# Altium schematic symbol library Luminary+Micro.SchLib: 208 symbols (part 4 of 5)
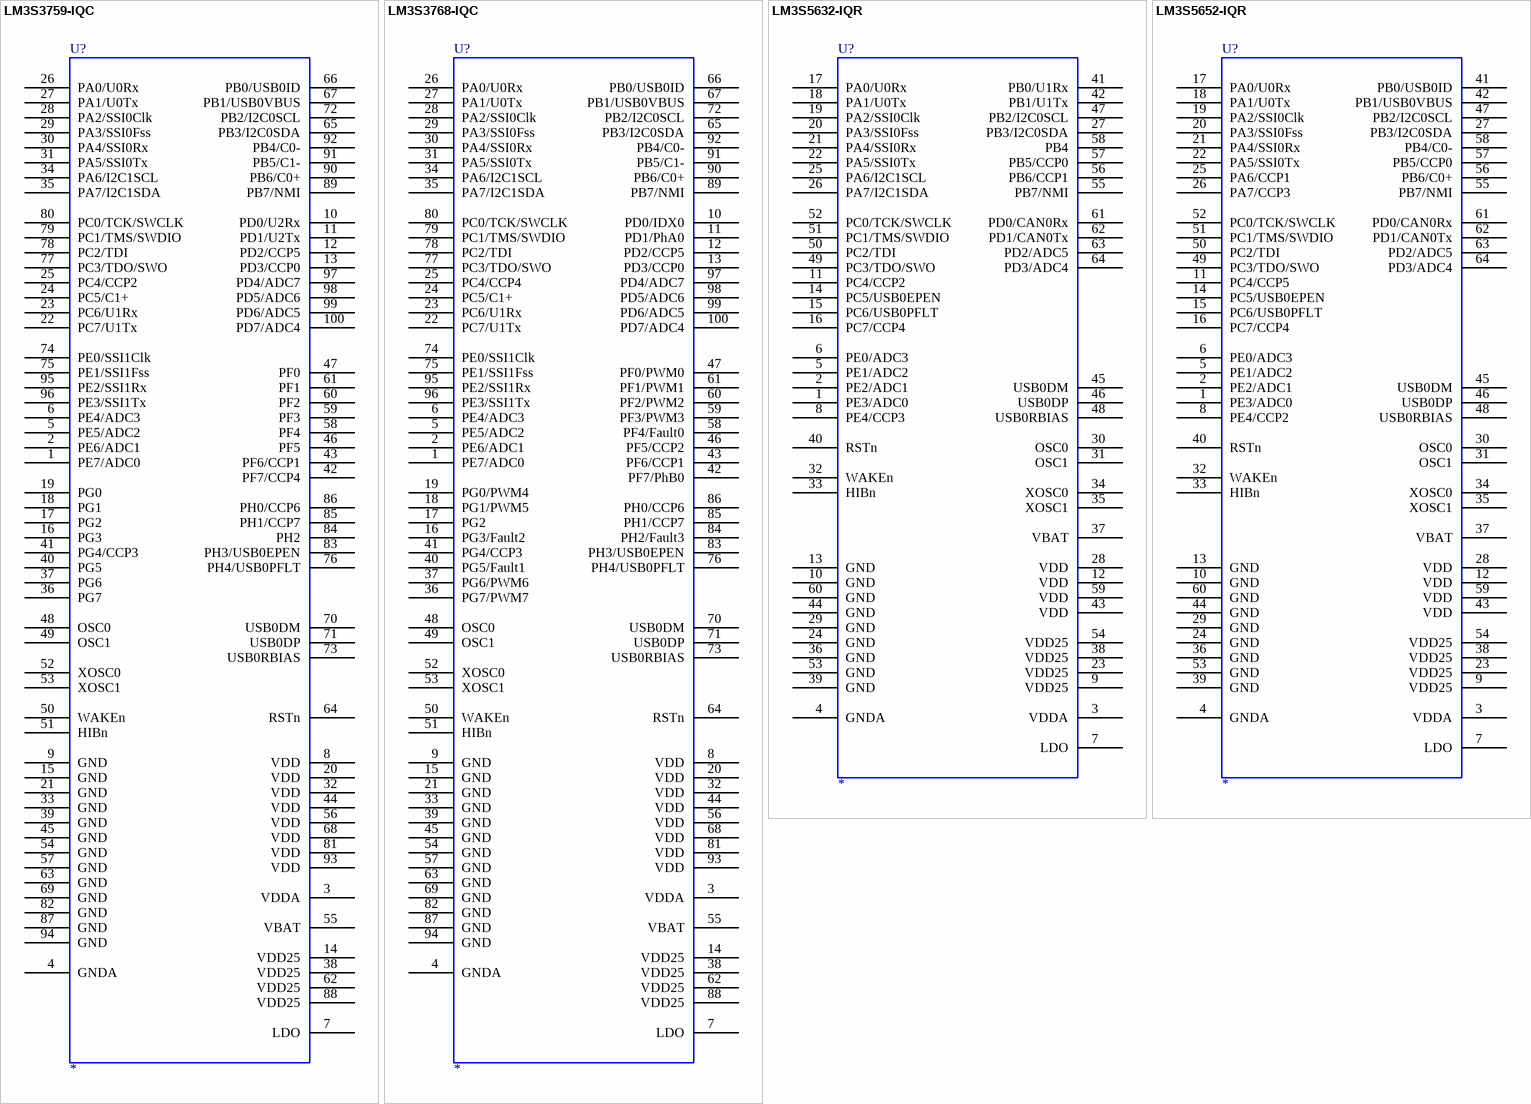
[diagram p51: symbols LM3S3759-IQC to LM3S5652-IQR]

## LM3S3768-IQC
designator U?
Stellaris ARM Cortex-M3 Microcontroller; MFG: Luminary Micro; Ordering: LM3S3768-IQC; LMI Class: Dust Devil
footprint QFP50P1600X1600X160-100N
pins: 1 PE7/ADC0, 2 PE6/ADC1, 3 VDDA, 4 GNDA, 5 PE5/ADC2, 6 PE4/ADC3, 7 LDO, 8 VDD, 9 GND, 10 PD0/IDX0, 11 PD1/PhA0, 12 PD2/CCP5, 13 PD3/CCP0, 14 VDD25, 15 GND, 16 PG3/Fault2, 17 PG2, 18 PG1/PWM5, 19 PG0/PWM4, 20 VDD, 21 GND, 22 PC7/U1Tx, 23 PC6/U1Rx, 24 PC5/C1+, 25 PC4/CCP4, 26 PA0/U0Rx, 27 PA1/U0Tx, 28 PA2/SSI0Clk, 29 PA3/SSI0Fss, 30 PA4/SSI0Rx, 31 PA5/SSI0Tx, 32 VDD, 33 GND, 34 PA6/I2C1SCL, 35 PA7/I2C1SDA, 36 PG7/PWM7, 37 PG6/PWM6, 38 VDD25, 39 GND, 40 PG5/Fault1, 41 PG4/CCP3, 42 PF7/PhB0, 43 PF6/CCP1, 44 VDD, 45 GND, 46 PF5/CCP2, 47 PF0/PWM0, 48 OSC0, 49 OSC1, 50 WAKEn, 51 HIBn, 52 XOSC0, 53 XOSC1, 54 GND, 55 VBAT, 56 VDD, 57 GND, 58 PF4/Fault0, 59 PF3/PWM3, 60 PF2/PWM2, 61 PF1/PWM1, 62 VDD25, 63 GND, 64 RSTn, 65 PB3/I2C0SDA, 66 PB0/USB0ID, 67 PB1/USB0VBUS, 68 VDD, 69 GND, 70 USB0DM, 71 USB0DP, 72 PB2/I2C0SCL, 73 USB0RBIAS, 74 PE0/SSI1Clk, 75 PE1/SSI1Fss, 76 PH4/USB0PFLT, 77 PC3/TDO/SWO, 78 PC2/TDI, 79 PC1/TMS/SWDIO, 80 PC0/TCK/SWCLK, 81 VDD, 82 GND, 83 PH3/USB0EPEN, 84 PH2/Fault3, 85 PH1/CCP7, 86 PH0/CCP6, 87 GND, 88 VDD25, 89 PB7/NMI, 90 PB6/C0+, 91 PB5/C1-, 92 PB4/C0-, 93 VDD, 94 GND, 95 PE2/SSI1Rx, 96 PE3/SSI1Tx, 97 PD4/ADC7, 98 PD5/ADC6, 99 PD6/ADC5, 100 PD7/ADC4

## LM3S5632-IQR
designator U?
Stellaris ARM Cortex-M3 Microcontroller; MFG: Luminary Micro; Ordering: LM3S5632-IQR; LMI Class: Dust Devil
footprint QFP50P1200X1200X160-64N
pins: 1 PE3/ADC0, 2 PE2/ADC1, 3 VDDA, 4 GNDA, 5 PE1/ADC2, 6 PE0/ADC3, 7 LDO, 8 PE4/CCP3, 9 VDD25, 10 GND, 11 PC4/CCP2, 12 VDD, 13 GND, 14 PC5/USB0EPEN, 15 PC6/USB0PFLT, 16 PC7/CCP4, 17 PA0/U0Rx, 18 PA1/U0Tx, 19 PA2/SSI0Clk, 20 PA3/SSI0Fss, 21 PA4/SSI0Rx, 22 PA5/SSI0Tx, 23 VDD25, 24 GND, 25 PA6/I2C1SCL, 26 PA7/I2C1SDA, 27 PB3/I2C0SDA, 28 VDD, 29 GND, 30 OSC0, 31 OSC1, 32 WAKEn, 33 HIBn, 34 XOSC0, 35 XOSC1, 36 GND, 37 VBAT, 38 VDD25, 39 GND, 40 RSTn, 41 PB0/U1Rx, 42 PB1/U1Tx, 43 VDD, 44 GND, 45 USB0DM, 46 USB0DP, 47 PB2/I2C0SCL, 48 USB0RBIAS, 49 PC3/TDO/SWO, 50 PC2/TDI, 51 PC1/TMS/SWDIO, 52 PC0/TCK/SWCLK, 53 GND, 54 VDD25, 55 PB7/NMI, 56 PB6/CCP1, 57 PB5/CCP0, 58 PB4, 59 VDD, 60 GND, 61 PD0/CAN0Rx, 62 PD1/CAN0Tx, 63 PD2/ADC5, 64 PD3/ADC4

## LM3S5652-IQR
designator U?
Stellaris ARM Cortex-M3 Microcontroller; MFG: Luminary Micro; Ordering: LM3S5652-IQR; LMI Class: Dust Devil
footprint QFP50P1200X1200X160-64N
pins: 1 PE3/ADC0, 2 PE2/ADC1, 3 VDDA, 4 GNDA, 5 PE1/ADC2, 6 PE0/ADC3, 7 LDO, 8 PE4/CCP2, 9 VDD25, 10 GND, 11 PC4/CCP5, 12 VDD, 13 GND, 14 PC5/USB0EPEN, 15 PC6/USB0PFLT, 16 PC7/CCP4, 17 PA0/U0Rx, 18 PA1/U0Tx, 19 PA2/SSI0Clk, 20 PA3/SSI0Fss, 21 PA4/SSI0Rx, 22 PA5/SSI0Tx, 23 VDD25, 24 GND, 25 PA6/CCP1, 26 PA7/CCP3, 27 PB3/I2C0SDA, 28 VDD, 29 GND, 30 OSC0, 31 OSC1, 32 WAKEn, 33 HIBn, 34 XOSC0, 35 XOSC1, 36 GND, 37 VBAT, 38 VDD25, 39 GND, 40 RSTn, 41 PB0/USB0ID, 42 PB1/USB0VBUS, 43 VDD, 44 GND, 45 USB0DM, 46 USB0DP, 47 PB2/I2C0SCL, 48 USB0RBIAS, 49 PC3/TDO/SWO, 50 PC2/TDI, 51 PC1/TMS/SWDIO, 52 PC0/TCK/SWCLK, 53 GND, 54 VDD25, 55 PB7/NMI, 56 PB6/C0+, 57 PB5/CCP0, 58 PB4/C0-, 59 VDD, 60 GND, 61 PD0/CAN0Rx, 62 PD1/CAN0Tx, 63 PD2/ADC5, 64 PD3/ADC4

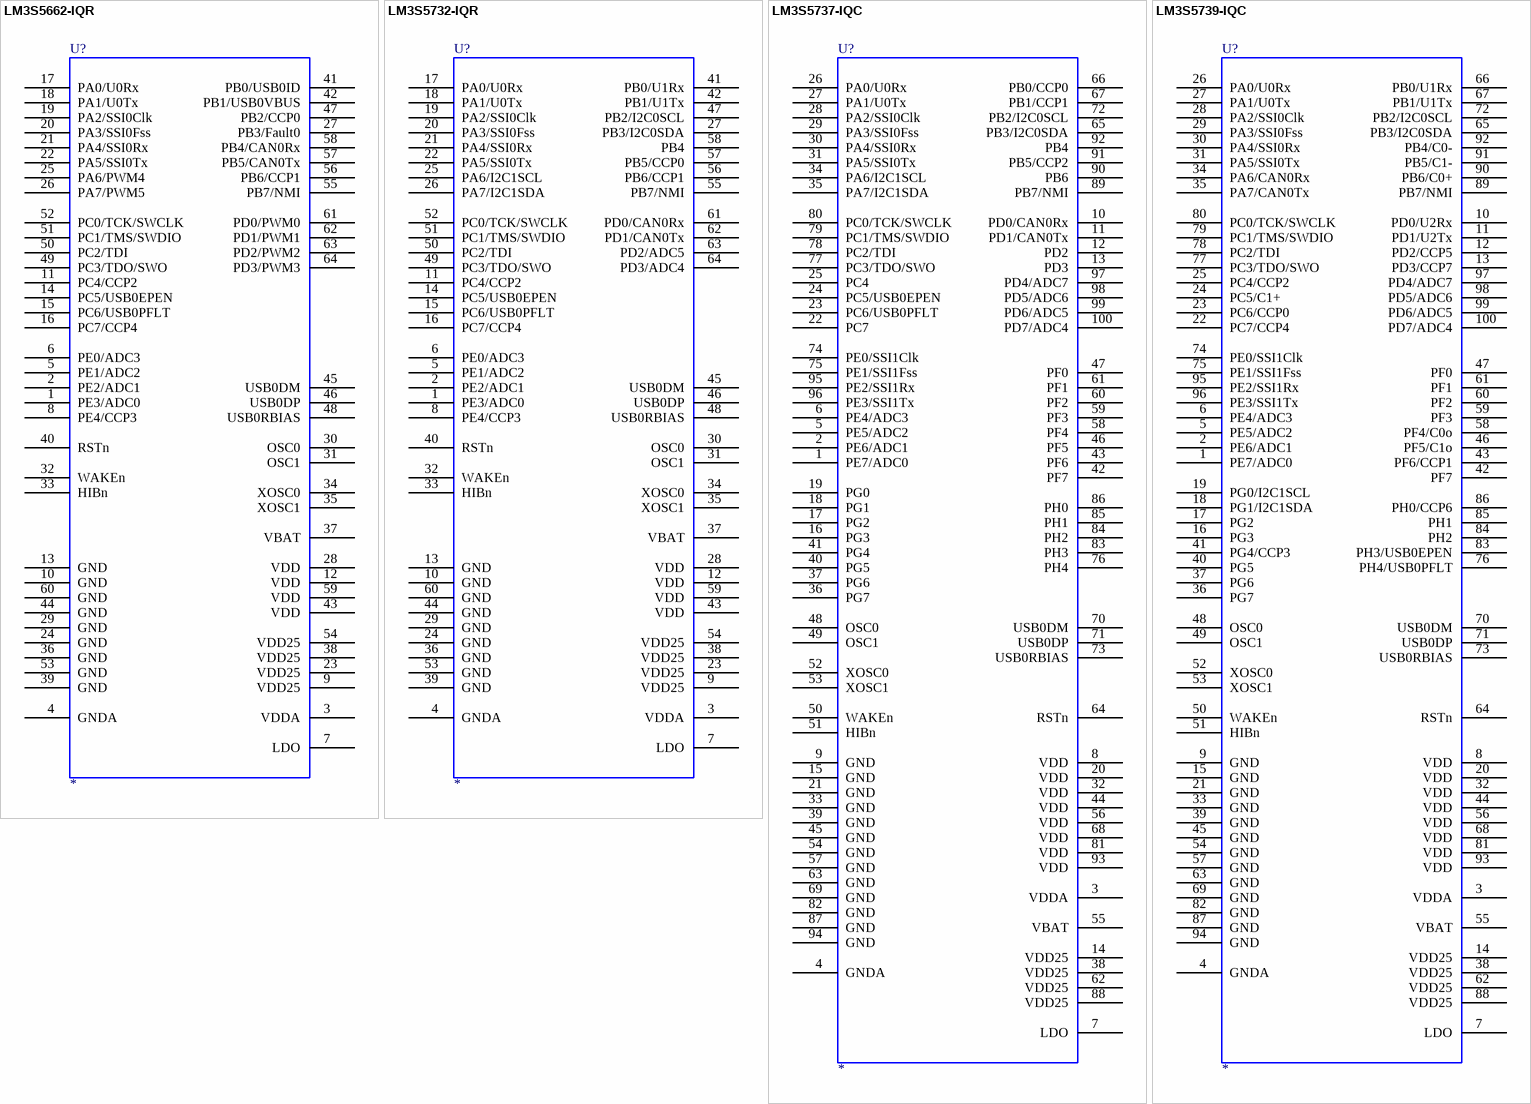
[diagram p30: symbols LM3S5662-IQR to LM3S5739-IQC]

## LM3S5662-IQR
designator U?
Stellaris ARM Cortex-M3 Microcontroller; MFG: Luminary Micro; Ordering: LM3S5662-IQR; LMI Class: Dust Devil
footprint QFP50P1200X1200X160-64N
pins: 1 PE3/ADC0, 2 PE2/ADC1, 3 VDDA, 4 GNDA, 5 PE1/ADC2, 6 PE0/ADC3, 7 LDO, 8 PE4/CCP3, 9 VDD25, 10 GND, 11 PC4/CCP2, 12 VDD, 13 GND, 14 PC5/USB0EPEN, 15 PC6/USB0PFLT, 16 PC7/CCP4, 17 PA0/U0Rx, 18 PA1/U0Tx, 19 PA2/SSI0Clk, 20 PA3/SSI0Fss, 21 PA4/SSI0Rx, 22 PA5/SSI0Tx, 23 VDD25, 24 GND, 25 PA6/PWM4, 26 PA7/PWM5, 27 PB3/Fault0, 28 VDD, 29 GND, 30 OSC0, 31 OSC1, 32 WAKEn, 33 HIBn, 34 XOSC0, 35 XOSC1, 36 GND, 37 VBAT, 38 VDD25, 39 GND, 40 RSTn, 41 PB0/USB0ID, 42 PB1/USB0VBUS, 43 VDD, 44 GND, 45 USB0DM, 46 USB0DP, 47 PB2/CCP0, 48 USB0RBIAS, 49 PC3/TDO/SWO, 50 PC2/TDI, 51 PC1/TMS/SWDIO, 52 PC0/TCK/SWCLK, 53 GND, 54 VDD25, 55 PB7/NMI, 56 PB6/CCP1, 57 PB5/CAN0Tx, 58 PB4/CAN0Rx, 59 VDD, 60 GND, 61 PD0/PWM0, 62 PD1/PWM1, 63 PD2/PWM2, 64 PD3/PWM3

## LM3S5732-IQR
designator U?
Stellaris ARM Cortex-M3 Microcontroller; MFG: Luminary Micro; Ordering: LM3S5732-IQR; LMI Class: Dust Devil
footprint QFP50P1200X1200X160-64N
pins: 1 PE3/ADC0, 2 PE2/ADC1, 3 VDDA, 4 GNDA, 5 PE1/ADC2, 6 PE0/ADC3, 7 LDO, 8 PE4/CCP3, 9 VDD25, 10 GND, 11 PC4/CCP2, 12 VDD, 13 GND, 14 PC5/USB0EPEN, 15 PC6/USB0PFLT, 16 PC7/CCP4, 17 PA0/U0Rx, 18 PA1/U0Tx, 19 PA2/SSI0Clk, 20 PA3/SSI0Fss, 21 PA4/SSI0Rx, 22 PA5/SSI0Tx, 23 VDD25, 24 GND, 25 PA6/I2C1SCL, 26 PA7/I2C1SDA, 27 PB3/I2C0SDA, 28 VDD, 29 GND, 30 OSC0, 31 OSC1, 32 WAKEn, 33 HIBn, 34 XOSC0, 35 XOSC1, 36 GND, 37 VBAT, 38 VDD25, 39 GND, 40 RSTn, 41 PB0/U1Rx, 42 PB1/U1Tx, 43 VDD, 44 GND, 45 USB0DM, 46 USB0DP, 47 PB2/I2C0SCL, 48 USB0RBIAS, 49 PC3/TDO/SWO, 50 PC2/TDI, 51 PC1/TMS/SWDIO, 52 PC0/TCK/SWCLK, 53 GND, 54 VDD25, 55 PB7/NMI, 56 PB6/CCP1, 57 PB5/CCP0, 58 PB4, 59 VDD, 60 GND, 61 PD0/CAN0Rx, 62 PD1/CAN0Tx, 63 PD2/ADC5, 64 PD3/ADC4

## LM3S5737-IQC
designator U?
Stellaris ARM Cortex-M3 Microcontroller; MFG: Luminary Micro; Ordering: LM3S5737-IQC; LMI Class: Dust Devil
footprint QFP50P1600X1600X160-100N
pins: 1 PE7/ADC0, 2 PE6/ADC1, 3 VDDA, 4 GNDA, 5 PE5/ADC2, 6 PE4/ADC3, 7 LDO, 8 VDD, 9 GND, 10 PD0/CAN0Rx, 11 PD1/CAN0Tx, 12 PD2, 13 PD3, 14 VDD25, 15 GND, 16 PG3, 17 PG2, 18 PG1, 19 PG0, 20 VDD, 21 GND, 22 PC7, 23 PC6/USB0PFLT, 24 PC5/USB0EPEN, 25 PC4, 26 PA0/U0Rx, 27 PA1/U0Tx, 28 PA2/SSI0Clk, 29 PA3/SSI0Fss, 30 PA4/SSI0Rx, 31 PA5/SSI0Tx, 32 VDD, 33 GND, 34 PA6/I2C1SCL, 35 PA7/I2C1SDA, 36 PG7, 37 PG6, 38 VDD25, 39 GND, 40 PG5, 41 PG4, 42 PF7, 43 PF6, 44 VDD, 45 GND, 46 PF5, 47 PF0, 48 OSC0, 49 OSC1, 50 WAKEn, 51 HIBn, 52 XOSC0, 53 XOSC1, 54 GND, 55 VBAT, 56 VDD, 57 GND, 58 PF4, 59 PF3, 60 PF2, 61 PF1, 62 VDD25, 63 GND, 64 RSTn, 65 PB3/I2C0SDA, 66 PB0/CCP0, 67 PB1/CCP1, 68 VDD, 69 GND, 70 USB0DM, 71 USB0DP, 72 PB2/I2C0SCL, 73 USB0RBIAS, 74 PE0/SSI1Clk, 75 PE1/SSI1Fss, 76 PH4, 77 PC3/TDO/SWO, 78 PC2/TDI, 79 PC1/TMS/SWDIO, 80 PC0/TCK/SWCLK, 81 VDD, 82 GND, 83 PH3, 84 PH2, 85 PH1, 86 PH0, 87 GND, 88 VDD25, 89 PB7/NMI, 90 PB6, 91 PB5/CCP2, 92 PB4, 93 VDD, 94 GND, 95 PE2/SSI1Rx, 96 PE3/SSI1Tx, 97 PD4/ADC7, 98 PD5/ADC6, 99 PD6/ADC5, 100 PD7/ADC4

## LM3S5739-IQC
designator U?
Stellaris ARM Cortex-M3 Microcontroller; MFG: Luminary Micro; Ordering: LM3S5739-IQC; LMI Class: Dust Devil
footprint QFP50P1600X1600X160-100N
pins: 1 PE7/ADC0, 2 PE6/ADC1, 3 VDDA, 4 GNDA, 5 PE5/ADC2, 6 PE4/ADC3, 7 LDO, 8 VDD, 9 GND, 10 PD0/U2Rx, 11 PD1/U2Tx, 12 PD2/CCP5, 13 PD3/CCP7, 14 VDD25, 15 GND, 16 PG3, 17 PG2, 18 PG1/I2C1SDA, 19 PG0/I2C1SCL, 20 VDD, 21 GND, 22 PC7/CCP4, 23 PC6/CCP0, 24 PC5/C1+, 25 PC4/CCP2, 26 PA0/U0Rx, 27 PA1/U0Tx, 28 PA2/SSI0Clk, 29 PA3/SSI0Fss, 30 PA4/SSI0Rx, 31 PA5/SSI0Tx, 32 VDD, 33 GND, 34 PA6/CAN0Rx, 35 PA7/CAN0Tx, 36 PG7, 37 PG6, 38 VDD25, 39 GND, 40 PG5, 41 PG4/CCP3, 42 PF7, 43 PF6/CCP1, 44 VDD, 45 GND, 46 PF5/C1o, 47 PF0, 48 OSC0, 49 OSC1, 50 WAKEn, 51 HIBn, 52 XOSC0, 53 XOSC1, 54 GND, 55 VBAT, 56 VDD, 57 GND, 58 PF4/C0o, 59 PF3, 60 PF2, 61 PF1, 62 VDD25, 63 GND, 64 RSTn, 65 PB3/I2C0SDA, 66 PB0/U1Rx, 67 PB1/U1Tx, 68 VDD, 69 GND, 70 USB0DM, 71 USB0DP, 72 PB2/I2C0SCL, 73 USB0RBIAS, 74 PE0/SSI1Clk, 75 PE1/SSI1Fss, 76 PH4/USB0PFLT, 77 PC3/TDO/SWO, 78 PC2/TDI, 79 PC1/TMS/SWDIO, 80 PC0/TCK/SWCLK, 81 VDD, 82 GND, 83 PH3/USB0EPEN, 84 PH2, 85 PH1, 86 PH0/CCP6, 87 GND, 88 VDD25, 89 PB7/NMI, 90 PB6/C0+, 91 PB5/C1-, 92 PB4/C0-, 93 VDD, 94 GND, 95 PE2/SSI1Rx, 96 PE3/SSI1Tx, 97 PD4/ADC7, 98 PD5/ADC6, 99 PD6/ADC5, 100 PD7/ADC4

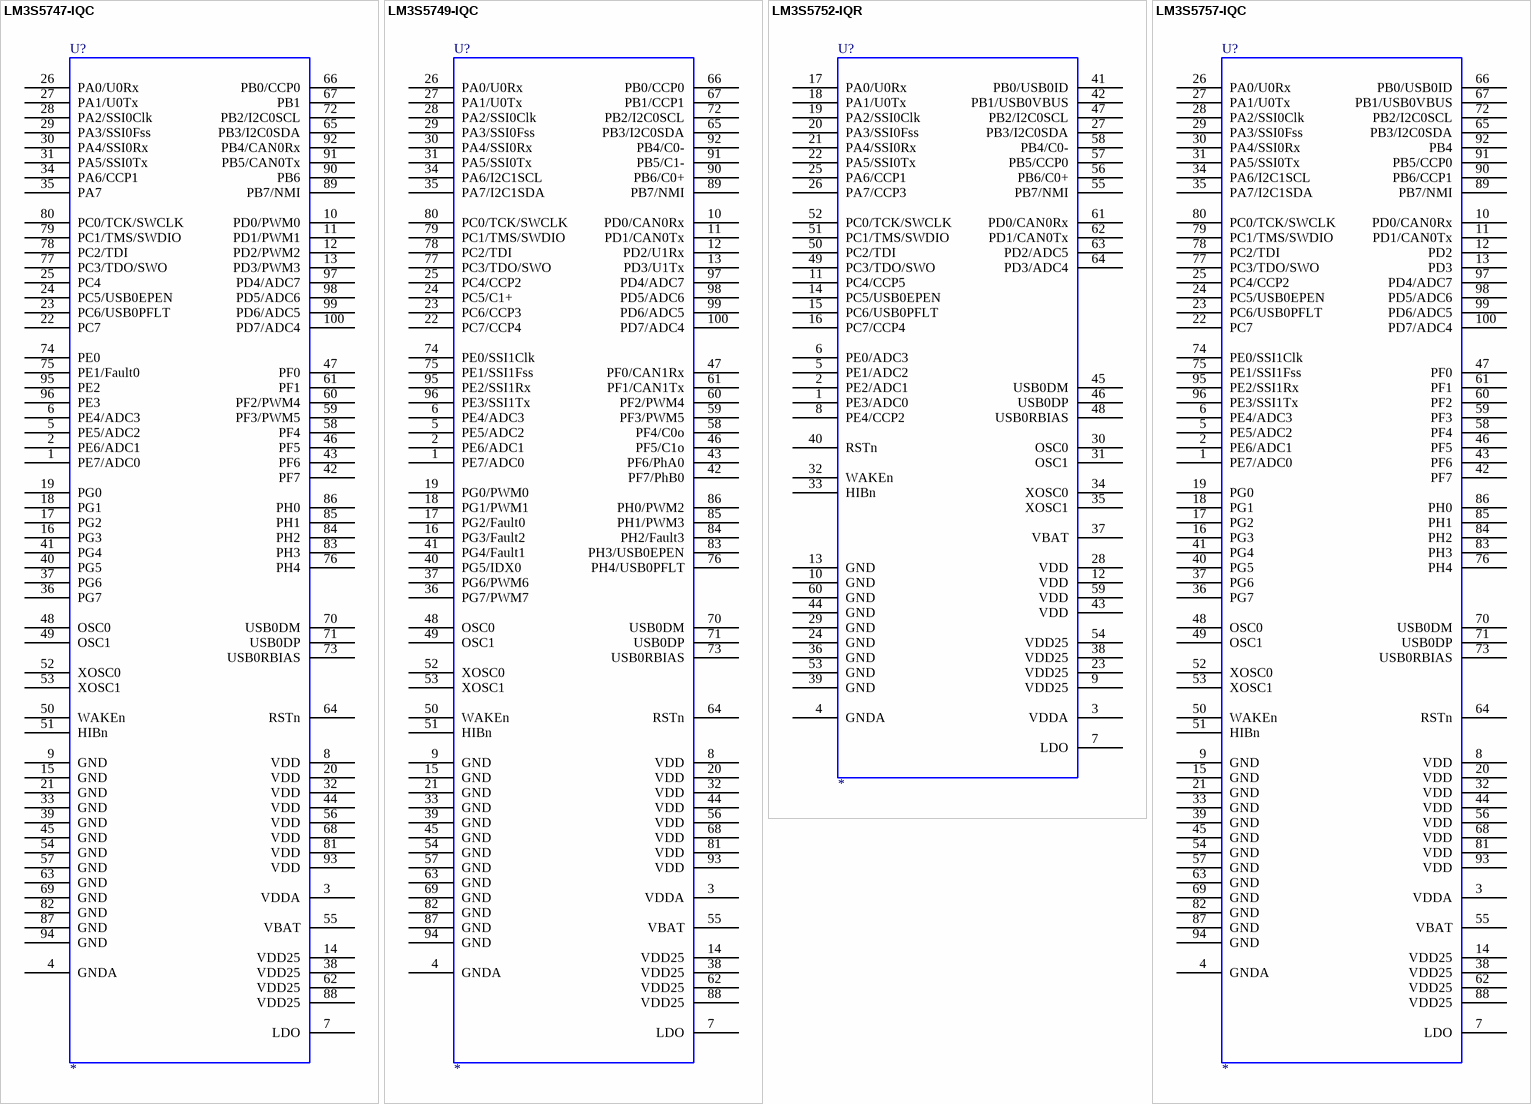
[diagram p31: symbols LM3S5747-IQC to LM3S5757-IQC]

## LM3S5747-IQC
designator U?
Stellaris ARM Cortex-M3 Microcontroller; MFG: Luminary Micro; Ordering: LM3S5747-IQC; LMI Class: Dust Devil
footprint QFP50P1600X1600X160-100N
pins: 1 PE7/ADC0, 2 PE6/ADC1, 3 VDDA, 4 GNDA, 5 PE5/ADC2, 6 PE4/ADC3, 7 LDO, 8 VDD, 9 GND, 10 PD0/PWM0, 11 PD1/PWM1, 12 PD2/PWM2, 13 PD3/PWM3, 14 VDD25, 15 GND, 16 PG3, 17 PG2, 18 PG1, 19 PG0, 20 VDD, 21 GND, 22 PC7, 23 PC6/USB0PFLT, 24 PC5/USB0EPEN, 25 PC4, 26 PA0/U0Rx, 27 PA1/U0Tx, 28 PA2/SSI0Clk, 29 PA3/SSI0Fss, 30 PA4/SSI0Rx, 31 PA5/SSI0Tx, 32 VDD, 33 GND, 34 PA6/CCP1, 35 PA7, 36 PG7, 37 PG6, 38 VDD25, 39 GND, 40 PG5, 41 PG4, 42 PF7, 43 PF6, 44 VDD, 45 GND, 46 PF5, 47 PF0, 48 OSC0, 49 OSC1, 50 WAKEn, 51 HIBn, 52 XOSC0, 53 XOSC1, 54 GND, 55 VBAT, 56 VDD, 57 GND, 58 PF4, 59 PF3/PWM5, 60 PF2/PWM4, 61 PF1, 62 VDD25, 63 GND, 64 RSTn, 65 PB3/I2C0SDA, 66 PB0/CCP0, 67 PB1, 68 VDD, 69 GND, 70 USB0DM, 71 USB0DP, 72 PB2/I2C0SCL, 73 USB0RBIAS, 74 PE0, 75 PE1/Fault0, 76 PH4, 77 PC3/TDO/SWO, 78 PC2/TDI, 79 PC1/TMS/SWDIO, 80 PC0/TCK/SWCLK, 81 VDD, 82 GND, 83 PH3, 84 PH2, 85 PH1, 86 PH0, 87 GND, 88 VDD25, 89 PB7/NMI, 90 PB6, 91 PB5/CAN0Tx, 92 PB4/CAN0Rx, 93 VDD, 94 GND, 95 PE2, 96 PE3, 97 PD4/ADC7, 98 PD5/ADC6, 99 PD6/ADC5, 100 PD7/ADC4

## LM3S5749-IQC
designator U?
Stellaris ARM Cortex-M3 Microcontroller; MFG: Luminary Micro; Ordering: LM3S5749-IQC; LMI Class: Dust Devil
footprint QFP50P1600X1600X160-100N
pins: 1 PE7/ADC0, 2 PE6/ADC1, 3 VDDA, 4 GNDA, 5 PE5/ADC2, 6 PE4/ADC3, 7 LDO, 8 VDD, 9 GND, 10 PD0/CAN0Rx, 11 PD1/CAN0Tx, 12 PD2/U1Rx, 13 PD3/U1Tx, 14 VDD25, 15 GND, 16 PG3/Fault2, 17 PG2/Fault0, 18 PG1/PWM1, 19 PG0/PWM0, 20 VDD, 21 GND, 22 PC7/CCP4, 23 PC6/CCP3, 24 PC5/C1+, 25 PC4/CCP2, 26 PA0/U0Rx, 27 PA1/U0Tx, 28 PA2/SSI0Clk, 29 PA3/SSI0Fss, 30 PA4/SSI0Rx, 31 PA5/SSI0Tx, 32 VDD, 33 GND, 34 PA6/I2C1SCL, 35 PA7/I2C1SDA, 36 PG7/PWM7, 37 PG6/PWM6, 38 VDD25, 39 GND, 40 PG5/IDX0, 41 PG4/Fault1, 42 PF7/PhB0, 43 PF6/PhA0, 44 VDD, 45 GND, 46 PF5/C1o, 47 PF0/CAN1Rx, 48 OSC0, 49 OSC1, 50 WAKEn, 51 HIBn, 52 XOSC0, 53 XOSC1, 54 GND, 55 VBAT, 56 VDD, 57 GND, 58 PF4/C0o, 59 PF3/PWM5, 60 PF2/PWM4, 61 PF1/CAN1Tx, 62 VDD25, 63 GND, 64 RSTn, 65 PB3/I2C0SDA, 66 PB0/CCP0, 67 PB1/CCP1, 68 VDD, 69 GND, 70 USB0DM, 71 USB0DP, 72 PB2/I2C0SCL, 73 USB0RBIAS, 74 PE0/SSI1Clk, 75 PE1/SSI1Fss, 76 PH4/USB0PFLT, 77 PC3/TDO/SWO, 78 PC2/TDI, 79 PC1/TMS/SWDIO, 80 PC0/TCK/SWCLK, 81 VDD, 82 GND, 83 PH3/USB0EPEN, 84 PH2/Fault3, 85 PH1/PWM3, 86 PH0/PWM2, 87 GND, 88 VDD25, 89 PB7/NMI, 90 PB6/C0+, 91 PB5/C1-, 92 PB4/C0-, 93 VDD, 94 GND, 95 PE2/SSI1Rx, 96 PE3/SSI1Tx, 97 PD4/ADC7, 98 PD5/ADC6, 99 PD6/ADC5, 100 PD7/ADC4

## LM3S5752-IQR
designator U?
Stellaris ARM Cortex-M3 Microcontroller; MFG: Luminary Micro; Ordering: LM3S5752-IQR; LMI Class: Dust Devil
footprint QFP50P1200X1200X160-64N
pins: 1 PE3/ADC0, 2 PE2/ADC1, 3 VDDA, 4 GNDA, 5 PE1/ADC2, 6 PE0/ADC3, 7 LDO, 8 PE4/CCP2, 9 VDD25, 10 GND, 11 PC4/CCP5, 12 VDD, 13 GND, 14 PC5/USB0EPEN, 15 PC6/USB0PFLT, 16 PC7/CCP4, 17 PA0/U0Rx, 18 PA1/U0Tx, 19 PA2/SSI0Clk, 20 PA3/SSI0Fss, 21 PA4/SSI0Rx, 22 PA5/SSI0Tx, 23 VDD25, 24 GND, 25 PA6/CCP1, 26 PA7/CCP3, 27 PB3/I2C0SDA, 28 VDD, 29 GND, 30 OSC0, 31 OSC1, 32 WAKEn, 33 HIBn, 34 XOSC0, 35 XOSC1, 36 GND, 37 VBAT, 38 VDD25, 39 GND, 40 RSTn, 41 PB0/USB0ID, 42 PB1/USB0VBUS, 43 VDD, 44 GND, 45 USB0DM, 46 USB0DP, 47 PB2/I2C0SCL, 48 USB0RBIAS, 49 PC3/TDO/SWO, 50 PC2/TDI, 51 PC1/TMS/SWDIO, 52 PC0/TCK/SWCLK, 53 GND, 54 VDD25, 55 PB7/NMI, 56 PB6/C0+, 57 PB5/CCP0, 58 PB4/C0-, 59 VDD, 60 GND, 61 PD0/CAN0Rx, 62 PD1/CAN0Tx, 63 PD2/ADC5, 64 PD3/ADC4

## LM3S5757-IQC
designator U?
Stellaris ARM Cortex-M3 Microcontroller; MFG: Luminary Micro; Ordering: LM3S5757-IQC; LMI Class: Dust Devil
footprint QFP50P1600X1600X160-100N
pins: 1 PE7/ADC0, 2 PE6/ADC1, 3 VDDA, 4 GNDA, 5 PE5/ADC2, 6 PE4/ADC3, 7 LDO, 8 VDD, 9 GND, 10 PD0/CAN0Rx, 11 PD1/CAN0Tx, 12 PD2, 13 PD3, 14 VDD25, 15 GND, 16 PG3, 17 PG2, 18 PG1, 19 PG0, 20 VDD, 21 GND, 22 PC7, 23 PC6/USB0PFLT, 24 PC5/USB0EPEN, 25 PC4/CCP2, 26 PA0/U0Rx, 27 PA1/U0Tx, 28 PA2/SSI0Clk, 29 PA3/SSI0Fss, 30 PA4/SSI0Rx, 31 PA5/SSI0Tx, 32 VDD, 33 GND, 34 PA6/I2C1SCL, 35 PA7/I2C1SDA, 36 PG7, 37 PG6, 38 VDD25, 39 GND, 40 PG5, 41 PG4, 42 PF7, 43 PF6, 44 VDD, 45 GND, 46 PF5, 47 PF0, 48 OSC0, 49 OSC1, 50 WAKEn, 51 HIBn, 52 XOSC0, 53 XOSC1, 54 GND, 55 VBAT, 56 VDD, 57 GND, 58 PF4, 59 PF3, 60 PF2, 61 PF1, 62 VDD25, 63 GND, 64 RSTn, 65 PB3/I2C0SDA, 66 PB0/USB0ID, 67 PB1/USB0VBUS, 68 VDD, 69 GND, 70 USB0DM, 71 USB0DP, 72 PB2/I2C0SCL, 73 USB0RBIAS, 74 PE0/SSI1Clk, 75 PE1/SSI1Fss, 76 PH4, 77 PC3/TDO/SWO, 78 PC2/TDI, 79 PC1/TMS/SWDIO, 80 PC0/TCK/SWCLK, 81 VDD, 82 GND, 83 PH3, 84 PH2, 85 PH1, 86 PH0, 87 GND, 88 VDD25, 89 PB7/NMI, 90 PB6/CCP1, 91 PB5/CCP0, 92 PB4, 93 VDD, 94 GND, 95 PE2/SSI1Rx, 96 PE3/SSI1Tx, 97 PD4/ADC7, 98 PD5/ADC6, 99 PD6/ADC5, 100 PD7/ADC4

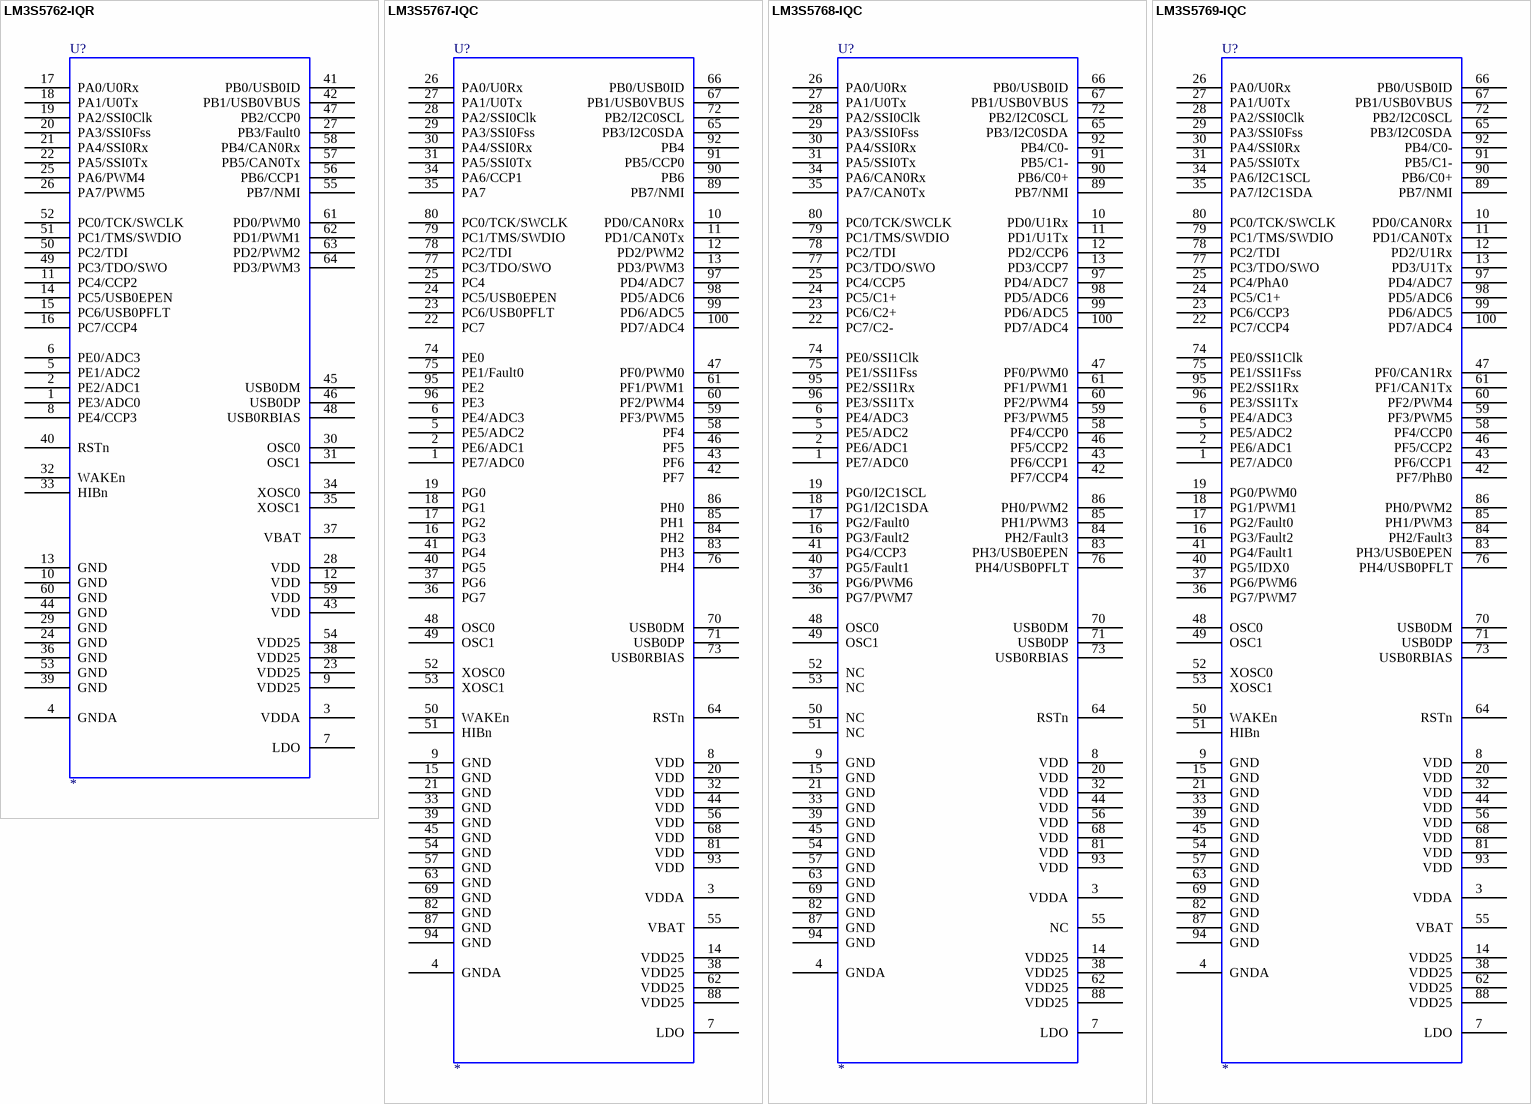
[diagram p32: symbols LM3S5762-IQR to LM3S5769-IQC]

## LM3S5762-IQR
designator U?
Stellaris ARM Cortex-M3 Microcontroller; MFG: Luminary Micro; Ordering: LM3S5762-IQR; LMI Class: Dust Devil
footprint QFP50P1200X1200X160-64N
pins: 1 PE3/ADC0, 2 PE2/ADC1, 3 VDDA, 4 GNDA, 5 PE1/ADC2, 6 PE0/ADC3, 7 LDO, 8 PE4/CCP3, 9 VDD25, 10 GND, 11 PC4/CCP2, 12 VDD, 13 GND, 14 PC5/USB0EPEN, 15 PC6/USB0PFLT, 16 PC7/CCP4, 17 PA0/U0Rx, 18 PA1/U0Tx, 19 PA2/SSI0Clk, 20 PA3/SSI0Fss, 21 PA4/SSI0Rx, 22 PA5/SSI0Tx, 23 VDD25, 24 GND, 25 PA6/PWM4, 26 PA7/PWM5, 27 PB3/Fault0, 28 VDD, 29 GND, 30 OSC0, 31 OSC1, 32 WAKEn, 33 HIBn, 34 XOSC0, 35 XOSC1, 36 GND, 37 VBAT, 38 VDD25, 39 GND, 40 RSTn, 41 PB0/USB0ID, 42 PB1/USB0VBUS, 43 VDD, 44 GND, 45 USB0DM, 46 USB0DP, 47 PB2/CCP0, 48 USB0RBIAS, 49 PC3/TDO/SWO, 50 PC2/TDI, 51 PC1/TMS/SWDIO, 52 PC0/TCK/SWCLK, 53 GND, 54 VDD25, 55 PB7/NMI, 56 PB6/CCP1, 57 PB5/CAN0Tx, 58 PB4/CAN0Rx, 59 VDD, 60 GND, 61 PD0/PWM0, 62 PD1/PWM1, 63 PD2/PWM2, 64 PD3/PWM3

## LM3S5767-IQC
designator U?
Stellaris ARM Cortex-M3 Microcontroller; MFG: Luminary Micro; Ordering: LM3S5767-IQC; LMI Class: Dust Devil
footprint QFP50P1600X1600X160-100N
pins: 1 PE7/ADC0, 2 PE6/ADC1, 3 VDDA, 4 GNDA, 5 PE5/ADC2, 6 PE4/ADC3, 7 LDO, 8 VDD, 9 GND, 10 PD0/CAN0Rx, 11 PD1/CAN0Tx, 12 PD2/PWM2, 13 PD3/PWM3, 14 VDD25, 15 GND, 16 PG3, 17 PG2, 18 PG1, 19 PG0, 20 VDD, 21 GND, 22 PC7, 23 PC6/USB0PFLT, 24 PC5/USB0EPEN, 25 PC4, 26 PA0/U0Rx, 27 PA1/U0Tx, 28 PA2/SSI0Clk, 29 PA3/SSI0Fss, 30 PA4/SSI0Rx, 31 PA5/SSI0Tx, 32 VDD, 33 GND, 34 PA6/CCP1, 35 PA7, 36 PG7, 37 PG6, 38 VDD25, 39 GND, 40 PG5, 41 PG4, 42 PF7, 43 PF6, 44 VDD, 45 GND, 46 PF5, 47 PF0/PWM0, 48 OSC0, 49 OSC1, 50 WAKEn, 51 HIBn, 52 XOSC0, 53 XOSC1, 54 GND, 55 VBAT, 56 VDD, 57 GND, 58 PF4, 59 PF3/PWM5, 60 PF2/PWM4, 61 PF1/PWM1, 62 VDD25, 63 GND, 64 RSTn, 65 PB3/I2C0SDA, 66 PB0/USB0ID, 67 PB1/USB0VBUS, 68 VDD, 69 GND, 70 USB0DM, 71 USB0DP, 72 PB2/I2C0SCL, 73 USB0RBIAS, 74 PE0, 75 PE1/Fault0, 76 PH4, 77 PC3/TDO/SWO, 78 PC2/TDI, 79 PC1/TMS/SWDIO, 80 PC0/TCK/SWCLK, 81 VDD, 82 GND, 83 PH3, 84 PH2, 85 PH1, 86 PH0, 87 GND, 88 VDD25, 89 PB7/NMI, 90 PB6, 91 PB5/CCP0, 92 PB4, 93 VDD, 94 GND, 95 PE2, 96 PE3, 97 PD4/ADC7, 98 PD5/ADC6, 99 PD6/ADC5, 100 PD7/ADC4

## LM3S5768-IQC
designator U?
Stellaris ARM Cortex-M3 Microcontroller; MFG: Luminary Micro; Ordering: LM3S5768-IQC; LMI Class: Dust Devil
footprint QFP50P1600X1600X160-100N
pins: 1 PE7/ADC0, 2 PE6/ADC1, 3 VDDA, 4 GNDA, 5 PE5/ADC2, 6 PE4/ADC3, 7 LDO, 8 VDD, 9 GND, 10 PD0/U1Rx, 11 PD1/U1Tx, 12 PD2/CCP6, 13 PD3/CCP7, 14 VDD25, 15 GND, 16 PG3/Fault2, 17 PG2/Fault0, 18 PG1/I2C1SDA, 19 PG0/I2C1SCL, 20 VDD, 21 GND, 22 PC7/C2-, 23 PC6/C2+, 24 PC5/C1+, 25 PC4/CCP5, 26 PA0/U0Rx, 27 PA1/U0Tx, 28 PA2/SSI0Clk, 29 PA3/SSI0Fss, 30 PA4/SSI0Rx, 31 PA5/SSI0Tx, 32 VDD, 33 GND, 34 PA6/CAN0Rx, 35 PA7/CAN0Tx, 36 PG7/PWM7, 37 PG6/PWM6, 38 VDD25, 39 GND, 40 PG5/Fault1, 41 PG4/CCP3, 42 PF7/CCP4, 43 PF6/CCP1, 44 VDD, 45 GND, 46 PF5/CCP2, 47 PF0/PWM0, 48 OSC0, 49 OSC1, 50 NC, 51 NC, 52 NC, 53 NC, 54 GND, 55 NC, 56 VDD, 57 GND, 58 PF4/CCP0, 59 PF3/PWM5, 60 PF2/PWM4, 61 PF1/PWM1, 62 VDD25, 63 GND, 64 RSTn, 65 PB3/I2C0SDA, 66 PB0/USB0ID, 67 PB1/USB0VBUS, 68 VDD, 69 GND, 70 USB0DM, 71 USB0DP, 72 PB2/I2C0SCL, 73 USB0RBIAS, 74 PE0/SSI1Clk, 75 PE1/SSI1Fss, 76 PH4/USB0PFLT, 77 PC3/TDO/SWO, 78 PC2/TDI, 79 PC1/TMS/SWDIO, 80 PC0/TCK/SWCLK, 81 VDD, 82 GND, 83 PH3/USB0EPEN, 84 PH2/Fault3, 85 PH1/PWM3, 86 PH0/PWM2, 87 GND, 88 VDD25, 89 PB7/NMI, 90 PB6/C0+, 91 PB5/C1-, 92 PB4/C0-, 93 VDD, 94 GND, 95 PE2/SSI1Rx, 96 PE3/SSI1Tx, 97 PD4/ADC7, 98 PD5/ADC6, 99 PD6/ADC5, 100 PD7/ADC4

## LM3S5769-IQC
designator U?
Stellaris ARM Cortex-M3 Microcontroller; MFG: Luminary Micro; Ordering: LM3S5769-IQC; LMI Class: Dust Devil
footprint QFP50P1600X1600X160-100N
pins: 1 PE7/ADC0, 2 PE6/ADC1, 3 VDDA, 4 GNDA, 5 PE5/ADC2, 6 PE4/ADC3, 7 LDO, 8 VDD, 9 GND, 10 PD0/CAN0Rx, 11 PD1/CAN0Tx, 12 PD2/U1Rx, 13 PD3/U1Tx, 14 VDD25, 15 GND, 16 PG3/Fault2, 17 PG2/Fault0, 18 PG1/PWM1, 19 PG0/PWM0, 20 VDD, 21 GND, 22 PC7/CCP4, 23 PC6/CCP3, 24 PC5/C1+, 25 PC4/PhA0, 26 PA0/U0Rx, 27 PA1/U0Tx, 28 PA2/SSI0Clk, 29 PA3/SSI0Fss, 30 PA4/SSI0Rx, 31 PA5/SSI0Tx, 32 VDD, 33 GND, 34 PA6/I2C1SCL, 35 PA7/I2C1SDA, 36 PG7/PWM7, 37 PG6/PWM6, 38 VDD25, 39 GND, 40 PG5/IDX0, 41 PG4/Fault1, 42 PF7/PhB0, 43 PF6/CCP1, 44 VDD, 45 GND, 46 PF5/CCP2, 47 PF0/CAN1Rx, 48 OSC0, 49 OSC1, 50 WAKEn, 51 HIBn, 52 XOSC0, 53 XOSC1, 54 GND, 55 VBAT, 56 VDD, 57 GND, 58 PF4/CCP0, 59 PF3/PWM5, 60 PF2/PWM4, 61 PF1/CAN1Tx, 62 VDD25, 63 GND, 64 RSTn, 65 PB3/I2C0SDA, 66 PB0/USB0ID, 67 PB1/USB0VBUS, 68 VDD, 69 GND, 70 USB0DM, 71 USB0DP, 72 PB2/I2C0SCL, 73 USB0RBIAS, 74 PE0/SSI1Clk, 75 PE1/SSI1Fss, 76 PH4/USB0PFLT, 77 PC3/TDO/SWO, 78 PC2/TDI, 79 PC1/TMS/SWDIO, 80 PC0/TCK/SWCLK, 81 VDD, 82 GND, 83 PH3/USB0EPEN, 84 PH2/Fault3, 85 PH1/PWM3, 86 PH0/PWM2, 87 GND, 88 VDD25, 89 PB7/NMI, 90 PB6/C0+, 91 PB5/C1-, 92 PB4/C0-, 93 VDD, 94 GND, 95 PE2/SSI1Rx, 96 PE3/SSI1Tx, 97 PD4/ADC7, 98 PD5/ADC6, 99 PD6/ADC5, 100 PD7/ADC4

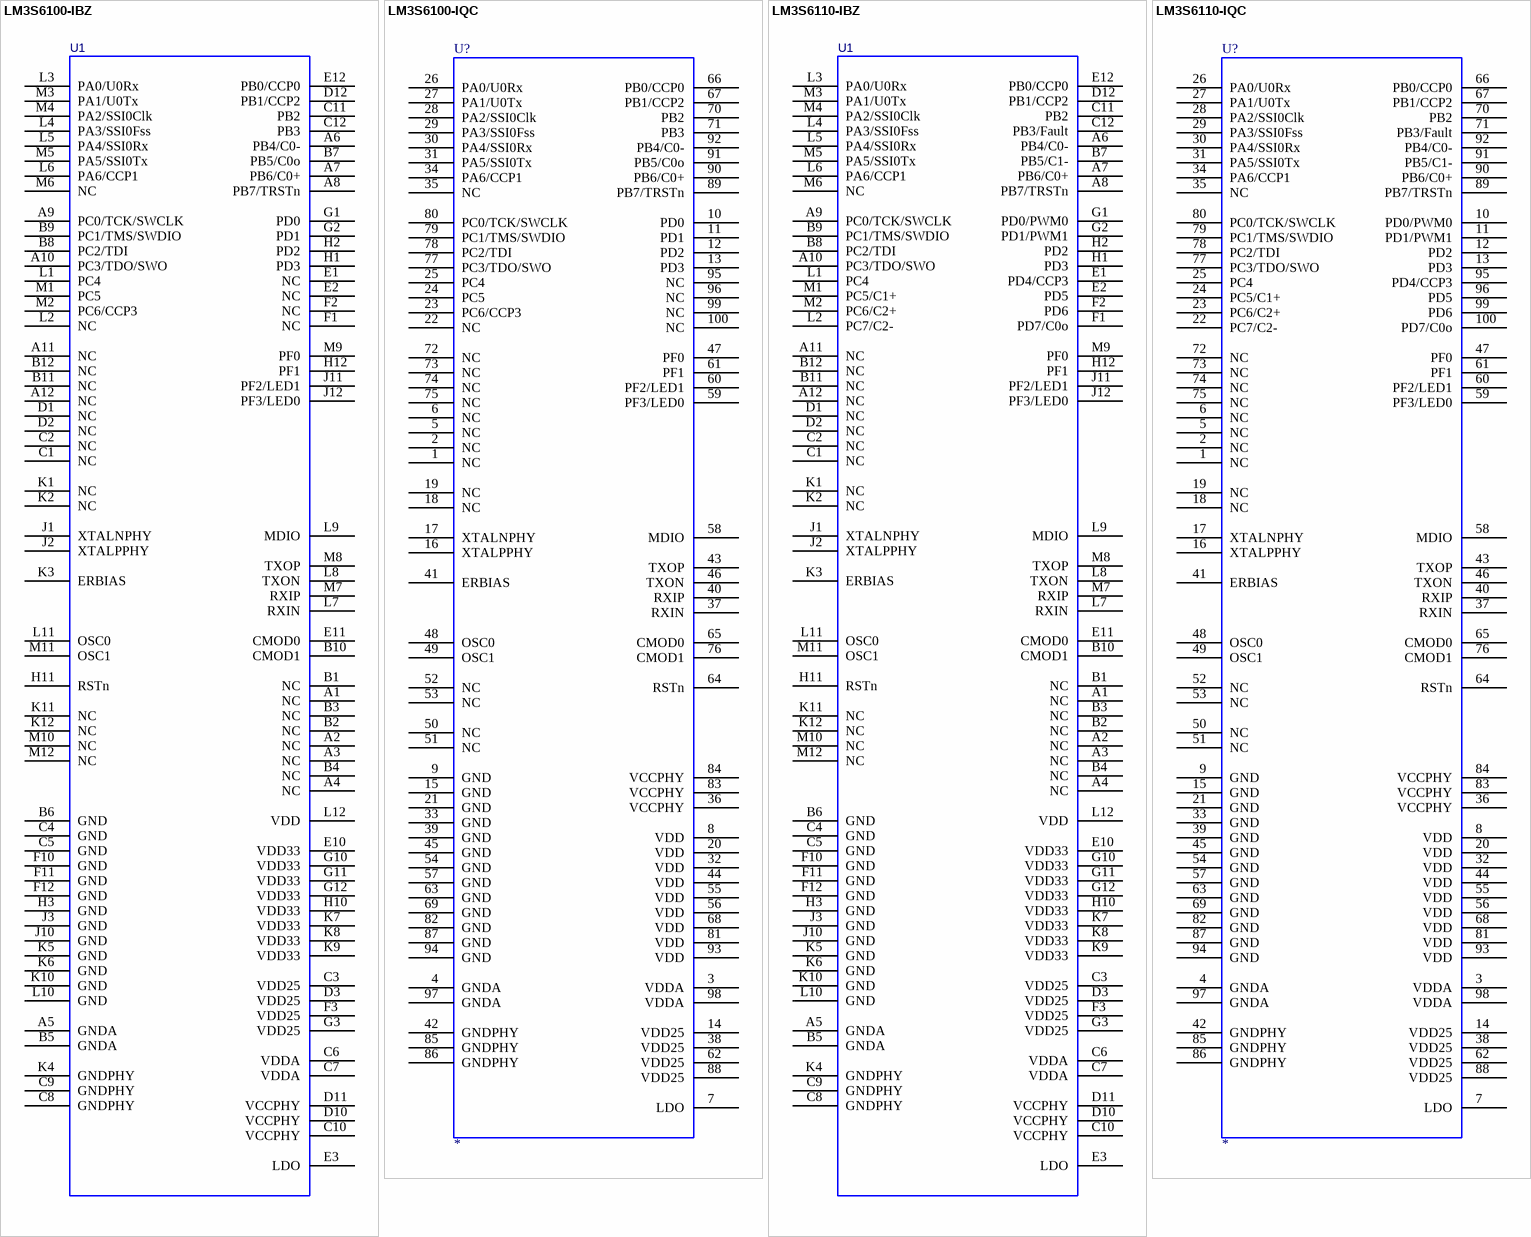
[diagram p33: symbols LM3S6100-IBZ to LM3S6110-IQC]

## LM3S6100-IBZ
designator U1
Stellaris ARM Cortex-M3 Microcontroller; MFG: Luminary Micro; Ordering: LM3S6100-IBZ; LMI Class: Fury
footprint BGA108C80P12X12_1000X1000X150 (BGA, 108-Leads, Body 10.0x10.0mm,  Pitch 0.80mm)
pins: A1 NC, A2 NC, A3 NC, A4 NC, A5 GNDA, A6 PB4/C0-, A7 PB6/C0+, A8 PB7/TRSTn, A9 PC0/TCK/SWCLK, A10 PC3/TDO/SWO, A11 NC, A12 NC, B1 NC, B2 NC, B3 NC, B4 NC, B5 GNDA, B6 GND, B7 PB5/C0o, B8 PC2/TDI, B9 PC1/TMS/SWDIO, B10 CMOD1, B11 NC, B12 NC, C1 NC, C2 NC, C3 VDD25, C4 GND, C5 GND, C6 VDDA, C7 VDDA, C8 GNDPHY, C9 GNDPHY, C10 VCCPHY, C11 PB2, C12 PB3, D1 NC, D2 NC, D3 VDD25, D10 VCCPHY, D11 VCCPHY, D12 PB1/CCP2, E1 NC, E2 NC, E3 LDO, E10 VDD33, E11 CMOD0, E12 PB0/CCP0, F1 NC, F2 NC, F3 VDD25, F10 GND, F11 GND, F12 GND, G1 PD0, G2 PD1, G3 VDD25, G10 VDD33, G11 VDD33, G12 VDD33, H1 PD3, H2 PD2, H3 GND, H10 VDD33, H11 RSTn, H12 PF1, J1 XTALNPHY, J2 XTALPPHY, J3 GND, J10 GND, J11 PF2/LED1, J12 PF3/LED0, K1 NC, K2 NC, K3 ERBIAS, K4 GNDPHY, K5 GND, K6 GND, K7 VDD33, K8 VDD33, K9 VDD33, K10 GND, K11 NC, K12 NC, L1 PC4, L2 NC, L3 PA0/U0Rx, L4 PA3/SSI0Fss, L5 PA4/SSI0Rx, L6 PA6/CCP1, L7 RXIN, L8 TXON, L9 MDIO, L10 GND, L11 OSC0, L12 VDD, M1 PC5, M2 PC6/CCP3, M3 PA1/U0Tx, M4 PA2/SSI0Clk, M5 PA5/SSI0Tx, M6 NC, M7 RXIP, M8 TXOP, M9 PF0, M10 NC, M11 OSC1, M12 NC

## LM3S6100-IQC
designator U?
Stellaris ARM Cortex-M3 Microcontroller; MFG: Luminary Micro; Ordering: LM3S6100-IQC; LMI Class: Fury
footprint QFP50P1600X1600X160-100N
pins: 1 NC, 2 NC, 3 VDDA, 4 GNDA, 5 NC, 6 NC, 7 LDO, 8 VDD, 9 GND, 10 PD0, 11 PD1, 12 PD2, 13 PD3, 14 VDD25, 15 GND, 16 XTALPPHY, 17 XTALNPHY, 18 NC, 19 NC, 20 VDD, 21 GND, 22 NC, 23 PC6/CCP3, 24 PC5, 25 PC4, 26 PA0/U0Rx, 27 PA1/U0Tx, 28 PA2/SSI0Clk, 29 PA3/SSI0Fss, 30 PA4/SSI0Rx, 31 PA5/SSI0Tx, 32 VDD, 33 GND, 34 PA6/CCP1, 35 NC, 36 VCCPHY, 37 RXIN, 38 VDD25, 39 GND, 40 RXIP, 41 ERBIAS, 42 GNDPHY, 43 TXOP, 44 VDD, 45 GND, 46 TXON, 47 PF0, 48 OSC0, 49 OSC1, 50 NC, 51 NC, 52 NC, 53 NC, 54 GND, 55 VDD, 56 VDD, 57 GND, 58 MDIO, 59 PF3/LED0, 60 PF2/LED1, 61 PF1, 62 VDD25, 63 GND, 64 RSTn, 65 CMOD0, 66 PB0/CCP0, 67 PB1/CCP2, 68 VDD, 69 GND, 70 PB2, 71 PB3, 72 NC, 73 NC, 74 NC, 75 NC, 76 CMOD1, 77 PC3/TDO/SWO, 78 PC2/TDI, 79 PC1/TMS/SWDIO, 80 PC0/TCK/SWCLK, 81 VDD, 82 GND, 83 VCCPHY, 84 VCCPHY, 85 GNDPHY, 86 GNDPHY, 87 GND, 88 VDD25, 89 PB7/TRSTn, 90 PB6/C0+, 91 PB5/C0o, 92 PB4/C0-, 93 VDD, 94 GND, 95 NC, 96 NC, 97 GNDA, 98 VDDA, 99 NC, 100 NC

## LM3S6110-IBZ
designator U1
Stellaris ARM Cortex-M3 Microcontroller; MFG: Luminary Micro; Ordering: LM3S6110-IBZ; LMI Class: Fury
footprint BGA108C80P12X12_1000X1000X150 (BGA, 108-Leads, Body 10.0x10.0mm,  Pitch 0.80mm)
pins: A1 NC, A2 NC, A3 NC, A4 NC, A5 GNDA, A6 PB4/C0-, A7 PB6/C0+, A8 PB7/TRSTn, A9 PC0/TCK/SWCLK, A10 PC3/TDO/SWO, A11 NC, A12 NC, B1 NC, B2 NC, B3 NC, B4 NC, B5 GNDA, B6 GND, B7 PB5/C1-, B8 PC2/TDI, B9 PC1/TMS/SWDIO, B10 CMOD1, B11 NC, B12 NC, C1 NC, C2 NC, C3 VDD25, C4 GND, C5 GND, C6 VDDA, C7 VDDA, C8 GNDPHY, C9 GNDPHY, C10 VCCPHY, C11 PB2, C12 PB3/Fault, D1 NC, D2 NC, D3 VDD25, D10 VCCPHY, D11 VCCPHY, D12 PB1/CCP2, E1 PD4/CCP3, E2 PD5, E3 LDO, E10 VDD33, E11 CMOD0, E12 PB0/CCP0, F1 PD7/C0o, F2 PD6, F3 VDD25, F10 GND, F11 GND, F12 GND, G1 PD0/PWM0, G2 PD1/PWM1, G3 VDD25, G10 VDD33, G11 VDD33, G12 VDD33, H1 PD3, H2 PD2, H3 GND, H10 VDD33, H11 RSTn, H12 PF1, J1 XTALNPHY, J2 XTALPPHY, J3 GND, J10 GND, J11 PF2/LED1, J12 PF3/LED0, K1 NC, K2 NC, K3 ERBIAS, K4 GNDPHY, K5 GND, K6 GND, K7 VDD33, K8 VDD33, K9 VDD33, K10 GND, K11 NC, K12 NC, L1 PC4, L2 PC7/C2-, L3 PA0/U0Rx, L4 PA3/SSI0Fss, L5 PA4/SSI0Rx, L6 PA6/CCP1, L7 RXIN, L8 TXON, L9 MDIO, L10 GND, L11 OSC0, L12 VDD, M1 PC5/C1+, M2 PC6/C2+, M3 PA1/U0Tx, M4 PA2/SSI0Clk, M5 PA5/SSI0Tx, M6 NC, M7 RXIP, M8 TXOP, M9 PF0, M10 NC, M11 OSC1, M12 NC

## LM3S6110-IQC
designator U?
Stellaris ARM Cortex-M3 Microcontroller; MFG: Luminary Micro; Ordering: LM3S6110-IQC; LMI Class: Fury
footprint QFP50P1600X1600X160-100N
pins: 1 NC, 2 NC, 3 VDDA, 4 GNDA, 5 NC, 6 NC, 7 LDO, 8 VDD, 9 GND, 10 PD0/PWM0, 11 PD1/PWM1, 12 PD2, 13 PD3, 14 VDD25, 15 GND, 16 XTALPPHY, 17 XTALNPHY, 18 NC, 19 NC, 20 VDD, 21 GND, 22 PC7/C2-, 23 PC6/C2+, 24 PC5/C1+, 25 PC4, 26 PA0/U0Rx, 27 PA1/U0Tx, 28 PA2/SSI0Clk, 29 PA3/SSI0Fss, 30 PA4/SSI0Rx, 31 PA5/SSI0Tx, 32 VDD, 33 GND, 34 PA6/CCP1, 35 NC, 36 VCCPHY, 37 RXIN, 38 VDD25, 39 GND, 40 RXIP, 41 ERBIAS, 42 GNDPHY, 43 TXOP, 44 VDD, 45 GND, 46 TXON, 47 PF0, 48 OSC0, 49 OSC1, 50 NC, 51 NC, 52 NC, 53 NC, 54 GND, 55 VDD, 56 VDD, 57 GND, 58 MDIO, 59 PF3/LED0, 60 PF2/LED1, 61 PF1, 62 VDD25, 63 GND, 64 RSTn, 65 CMOD0, 66 PB0/CCP0, 67 PB1/CCP2, 68 VDD, 69 GND, 70 PB2, 71 PB3/Fault, 72 NC, 73 NC, 74 NC, 75 NC, 76 CMOD1, 77 PC3/TDO/SWO, 78 PC2/TDI, 79 PC1/TMS/SWDIO, 80 PC0/TCK/SWCLK, 81 VDD, 82 GND, 83 VCCPHY, 84 VCCPHY, 85 GNDPHY, 86 GNDPHY, 87 GND, 88 VDD25, 89 PB7/TRSTn, 90 PB6/C0+, 91 PB5/C1-, 92 PB4/C0-, 93 VDD, 94 GND, 95 PD4/CCP3, 96 PD5, 97 GNDA, 98 VDDA, 99 PD6, 100 PD7/C0o

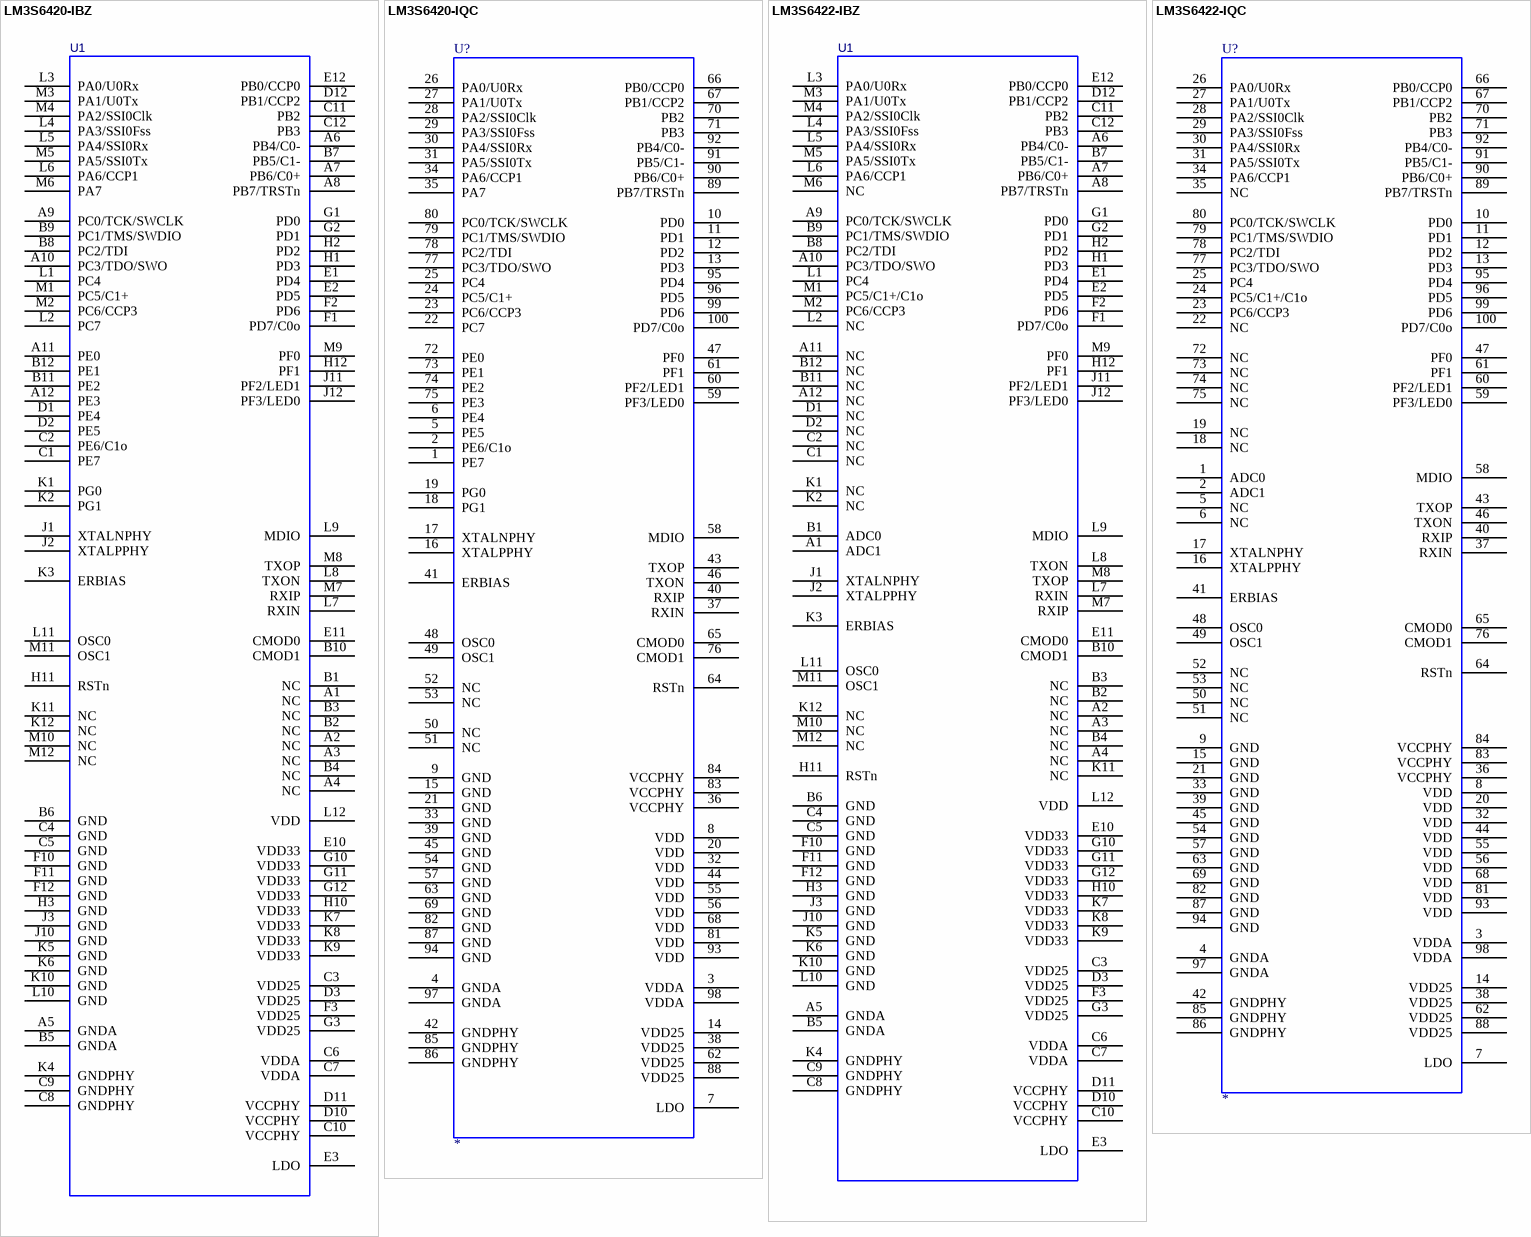
[diagram p34: symbols LM3S6420-IBZ to LM3S6422-IQC]

## LM3S6420-IBZ
designator U1
Stellaris ARM Cortex-M3 Microcontroller; MFG: Luminary Micro; Ordering: LM3S6420-IBZ; LMI Class: Fury
footprint BGA108C80P12X12_1000X1000X150 (BGA, 108-Leads, Body 10.0x10.0mm,  Pitch 0.80mm)
pins: A1 NC, A2 NC, A3 NC, A4 NC, A5 GNDA, A6 PB4/C0-, A7 PB6/C0+, A8 PB7/TRSTn, A9 PC0/TCK/SWCLK, A10 PC3/TDO/SWO, A11 PE0, A12 PE3, B1 NC, B2 NC, B3 NC, B4 NC, B5 GNDA, B6 GND, B7 PB5/C1-, B8 PC2/TDI, B9 PC1/TMS/SWDIO, B10 CMOD1, B11 PE2, B12 PE1, C1 PE7, C2 PE6/C1o, C3 VDD25, C4 GND, C5 GND, C6 VDDA, C7 VDDA, C8 GNDPHY, C9 GNDPHY, C10 VCCPHY, C11 PB2, C12 PB3, D1 PE4, D2 PE5, D3 VDD25, D10 VCCPHY, D11 VCCPHY, D12 PB1/CCP2, E1 PD4, E2 PD5, E3 LDO, E10 VDD33, E11 CMOD0, E12 PB0/CCP0, F1 PD7/C0o, F2 PD6, F3 VDD25, F10 GND, F11 GND, F12 GND, G1 PD0, G2 PD1, G3 VDD25, G10 VDD33, G11 VDD33, G12 VDD33, H1 PD3, H2 PD2, H3 GND, H10 VDD33, H11 RSTn, H12 PF1, J1 XTALNPHY, J2 XTALPPHY, J3 GND, J10 GND, J11 PF2/LED1, J12 PF3/LED0, K1 PG0, K2 PG1, K3 ERBIAS, K4 GNDPHY, K5 GND, K6 GND, K7 VDD33, K8 VDD33, K9 VDD33, K10 GND, K11 NC, K12 NC, L1 PC4, L2 PC7, L3 PA0/U0Rx, L4 PA3/SSI0Fss, L5 PA4/SSI0Rx, L6 PA6/CCP1, L7 RXIN, L8 TXON, L9 MDIO, L10 GND, L11 OSC0, L12 VDD, M1 PC5/C1+, M2 PC6/CCP3, M3 PA1/U0Tx, M4 PA2/SSI0Clk, M5 PA5/SSI0Tx, M6 PA7, M7 RXIP, M8 TXOP, M9 PF0, M10 NC, M11 OSC1, M12 NC

## LM3S6420-IQC
designator U?
Stellaris ARM Cortex-M3 Microcontroller; MFG: Luminary Micro; Ordering: LM3S6420-IQC; LMI Class: Fury
footprint QFP50P1600X1600X160-100N
pins: 1 PE7, 2 PE6/C1o, 3 VDDA, 4 GNDA, 5 PE5, 6 PE4, 7 LDO, 8 VDD, 9 GND, 10 PD0, 11 PD1, 12 PD2, 13 PD3, 14 VDD25, 15 GND, 16 XTALPPHY, 17 XTALNPHY, 18 PG1, 19 PG0, 20 VDD, 21 GND, 22 PC7, 23 PC6/CCP3, 24 PC5/C1+, 25 PC4, 26 PA0/U0Rx, 27 PA1/U0Tx, 28 PA2/SSI0Clk, 29 PA3/SSI0Fss, 30 PA4/SSI0Rx, 31 PA5/SSI0Tx, 32 VDD, 33 GND, 34 PA6/CCP1, 35 PA7, 36 VCCPHY, 37 RXIN, 38 VDD25, 39 GND, 40 RXIP, 41 ERBIAS, 42 GNDPHY, 43 TXOP, 44 VDD, 45 GND, 46 TXON, 47 PF0, 48 OSC0, 49 OSC1, 50 NC, 51 NC, 52 NC, 53 NC, 54 GND, 55 VDD, 56 VDD, 57 GND, 58 MDIO, 59 PF3/LED0, 60 PF2/LED1, 61 PF1, 62 VDD25, 63 GND, 64 RSTn, 65 CMOD0, 66 PB0/CCP0, 67 PB1/CCP2, 68 VDD, 69 GND, 70 PB2, 71 PB3, 72 PE0, 73 PE1, 74 PE2, 75 PE3, 76 CMOD1, 77 PC3/TDO/SWO, 78 PC2/TDI, 79 PC1/TMS/SWDIO, 80 PC0/TCK/SWCLK, 81 VDD, 82 GND, 83 VCCPHY, 84 VCCPHY, 85 GNDPHY, 86 GNDPHY, 87 GND, 88 VDD25, 89 PB7/TRSTn, 90 PB6/C0+, 91 PB5/C1-, 92 PB4/C0-, 93 VDD, 94 GND, 95 PD4, 96 PD5, 97 GNDA, 98 VDDA, 99 PD6, 100 PD7/C0o

## LM3S6422-IBZ
designator U1
Stellaris ARM Cortex-M3 Microcontroller; MFG: Luminary Micro; Ordering: LM3S6422-IBZ; LMI Class: Fury
footprint BGA108C80P12X12_1000X1000X150 (BGA, 108-Leads, Body 10.0x10.0mm,  Pitch 0.80mm)
pins: A1 ADC1, A2 NC, A3 NC, A4 NC, A5 GNDA, A6 PB4/C0-, A7 PB6/C0+, A8 PB7/TRSTn, A9 PC0/TCK/SWCLK, A10 PC3/TDO/SWO, A11 NC, A12 NC, B1 ADC0, B2 NC, B3 NC, B4 NC, B5 GNDA, B6 GND, B7 PB5/C1-, B8 PC2/TDI, B9 PC1/TMS/SWDIO, B10 CMOD1, B11 NC, B12 NC, C1 NC, C2 NC, C3 VDD25, C4 GND, C5 GND, C6 VDDA, C7 VDDA, C8 GNDPHY, C9 GNDPHY, C10 VCCPHY, C11 PB2, C12 PB3, D1 NC, D2 NC, D3 VDD25, D10 VCCPHY, D11 VCCPHY, D12 PB1/CCP2, E1 PD4, E2 PD5, E3 LDO, E10 VDD33, E11 CMOD0, E12 PB0/CCP0, F1 PD7/C0o, F2 PD6, F3 VDD25, F10 GND, F11 GND, F12 GND, G1 PD0, G2 PD1, G3 VDD25, G10 VDD33, G11 VDD33, G12 VDD33, H1 PD3, H2 PD2, H3 GND, H10 VDD33, H11 RSTn, H12 PF1, J1 XTALNPHY, J2 XTALPPHY, J3 GND, J10 GND, J11 PF2/LED1, J12 PF3/LED0, K1 NC, K2 NC, K3 ERBIAS, K4 GNDPHY, K5 GND, K6 GND, K7 VDD33, K8 VDD33, K9 VDD33, K10 GND, K11 NC, K12 NC, L1 PC4, L2 NC, L3 PA0/U0Rx, L4 PA3/SSI0Fss, L5 PA4/SSI0Rx, L6 PA6/CCP1, L7 RXIN, L8 TXON, L9 MDIO, L10 GND, L11 OSC0, L12 VDD, M1 PC5/C1+/C1o, M2 PC6/CCP3, M3 PA1/U0Tx, M4 PA2/SSI0Clk, M5 PA5/SSI0Tx, M6 NC, M7 RXIP, M8 TXOP, M9 PF0, M10 NC, M11 OSC1, M12 NC

## LM3S6422-IQC
designator U?
Stellaris ARM Cortex-M3 Microcontroller; MFG: Luminary Micro; Ordering: LM3S6422-IQC; LMI Class: Fury
footprint QFP50P1600X1600X160-100N
pins: 1 ADC0, 2 ADC1, 3 VDDA, 4 GNDA, 5 NC, 6 NC, 7 LDO, 8 VDD, 9 GND, 10 PD0, 11 PD1, 12 PD2, 13 PD3, 14 VDD25, 15 GND, 16 XTALPPHY, 17 XTALNPHY, 18 NC, 19 NC, 20 VDD, 21 GND, 22 NC, 23 PC6/CCP3, 24 PC5/C1+/C1o, 25 PC4, 26 PA0/U0Rx, 27 PA1/U0Tx, 28 PA2/SSI0Clk, 29 PA3/SSI0Fss, 30 PA4/SSI0Rx, 31 PA5/SSI0Tx, 32 VDD, 33 GND, 34 PA6/CCP1, 35 NC, 36 VCCPHY, 37 RXIN, 38 VDD25, 39 GND, 40 RXIP, 41 ERBIAS, 42 GNDPHY, 43 TXOP, 44 VDD, 45 GND, 46 TXON, 47 PF0, 48 OSC0, 49 OSC1, 50 NC, 51 NC, 52 NC, 53 NC, 54 GND, 55 VDD, 56 VDD, 57 GND, 58 MDIO, 59 PF3/LED0, 60 PF2/LED1, 61 PF1, 62 VDD25, 63 GND, 64 RSTn, 65 CMOD0, 66 PB0/CCP0, 67 PB1/CCP2, 68 VDD, 69 GND, 70 PB2, 71 PB3, 72 NC, 73 NC, 74 NC, 75 NC, 76 CMOD1, 77 PC3/TDO/SWO, 78 PC2/TDI, 79 PC1/TMS/SWDIO, 80 PC0/TCK/SWCLK, 81 VDD, 82 GND, 83 VCCPHY, 84 VCCPHY, 85 GNDPHY, 86 GNDPHY, 87 GND, 88 VDD25, 89 PB7/TRSTn, 90 PB6/C0+, 91 PB5/C1-, 92 PB4/C0-, 93 VDD, 94 GND, 95 PD4, 96 PD5, 97 GNDA, 98 VDDA, 99 PD6, 100 PD7/C0o

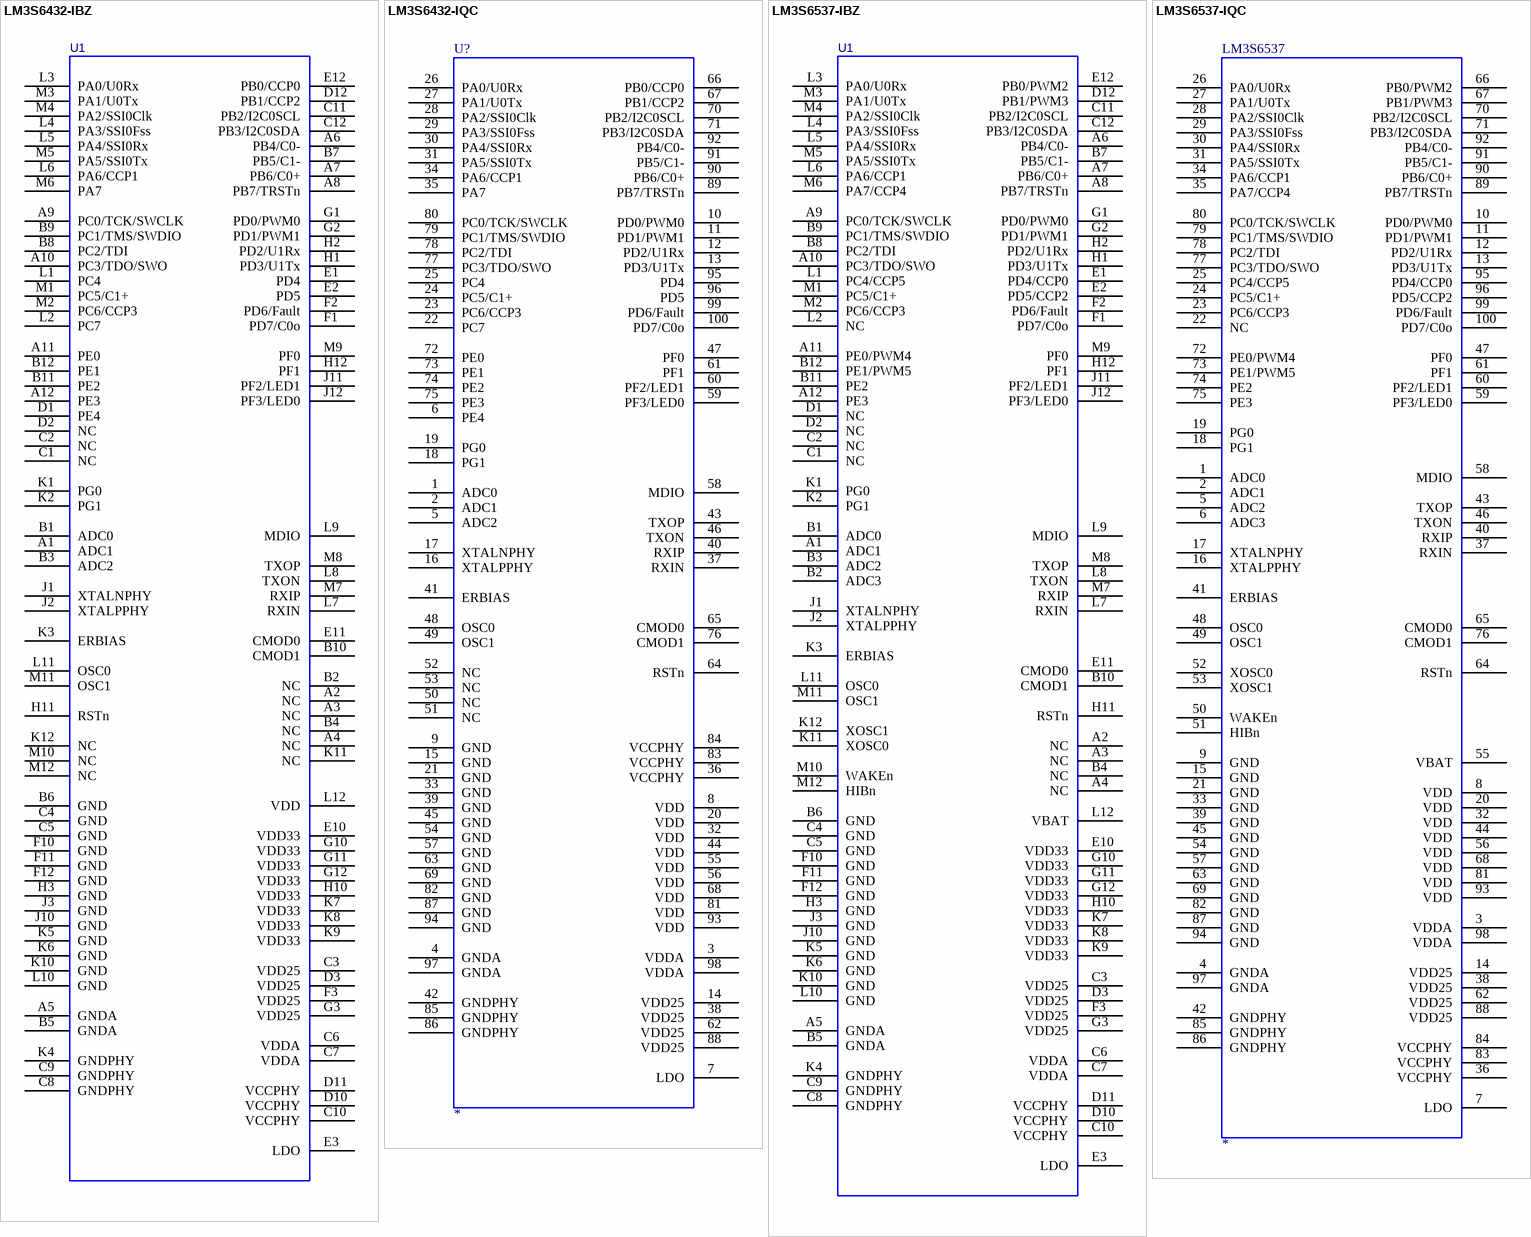
[diagram p35: symbols LM3S6432-IBZ to LM3S6537-IQC]

## LM3S6432-IBZ
designator U1
Stellaris ARM Cortex-M3 Microcontroller; MFG: Luminary Micro; Ordering: LM3S6432-IBZ; LMI Class: Fury
footprint BGA108C80P12X12_1000X1000X150 (BGA, 108-Leads, Body 10.0x10.0mm,  Pitch 0.80mm)
pins: A1 ADC1, A2 NC, A3 NC, A4 NC, A5 GNDA, A6 PB4/C0-, A7 PB6/C0+, A8 PB7/TRSTn, A9 PC0/TCK/SWCLK, A10 PC3/TDO/SWO, A11 PE0, A12 PE3, B1 ADC0, B2 NC, B3 ADC2, B4 NC, B5 GNDA, B6 GND, B7 PB5/C1-, B8 PC2/TDI, B9 PC1/TMS/SWDIO, B10 CMOD1, B11 PE2, B12 PE1, C1 NC, C2 NC, C3 VDD25, C4 GND, C5 GND, C6 VDDA, C7 VDDA, C8 GNDPHY, C9 GNDPHY, C10 VCCPHY, C11 PB2/I2C0SCL, C12 PB3/I2C0SDA, D1 PE4, D2 NC, D3 VDD25, D10 VCCPHY, D11 VCCPHY, D12 PB1/CCP2, E1 PD4, E2 PD5, E3 LDO, E10 VDD33, E11 CMOD0, E12 PB0/CCP0, F1 PD7/C0o, F2 PD6/Fault, F3 VDD25, F10 GND, F11 GND, F12 GND, G1 PD0/PWM0, G2 PD1/PWM1, G3 VDD25, G10 VDD33, G11 VDD33, G12 VDD33, H1 PD3/U1Tx, H2 PD2/U1Rx, H3 GND, H10 VDD33, H11 RSTn, H12 PF1, J1 XTALNPHY, J2 XTALPPHY, J3 GND, J10 GND, J11 PF2/LED1, J12 PF3/LED0, K1 PG0, K2 PG1, K3 ERBIAS, K4 GNDPHY, K5 GND, K6 GND, K7 VDD33, K8 VDD33, K9 VDD33, K10 GND, K11 NC, K12 NC, L1 PC4, L2 PC7, L3 PA0/U0Rx, L4 PA3/SSI0Fss, L5 PA4/SSI0Rx, L6 PA6/CCP1, L7 RXIN, L8 TXON, L9 MDIO, L10 GND, L11 OSC0, L12 VDD, M1 PC5/C1+, M2 PC6/CCP3, M3 PA1/U0Tx, M4 PA2/SSI0Clk, M5 PA5/SSI0Tx, M6 PA7, M7 RXIP, M8 TXOP, M9 PF0, M10 NC, M11 OSC1, M12 NC

## LM3S6432-IQC
designator U?
Stellaris ARM Cortex-M3 Microcontroller; MFG: Luminary Micro; Ordering: LM3S6432-IQC; LMI Class: Fury
footprint QFP50P1600X1600X160-100N
pins: 1 ADC0, 2 ADC1, 3 VDDA, 4 GNDA, 5 ADC2, 6 PE4, 7 LDO, 8 VDD, 9 GND, 10 PD0/PWM0, 11 PD1/PWM1, 12 PD2/U1Rx, 13 PD3/U1Tx, 14 VDD25, 15 GND, 16 XTALPPHY, 17 XTALNPHY, 18 PG1, 19 PG0, 20 VDD, 21 GND, 22 PC7, 23 PC6/CCP3, 24 PC5/C1+, 25 PC4, 26 PA0/U0Rx, 27 PA1/U0Tx, 28 PA2/SSI0Clk, 29 PA3/SSI0Fss, 30 PA4/SSI0Rx, 31 PA5/SSI0Tx, 32 VDD, 33 GND, 34 PA6/CCP1, 35 PA7, 36 VCCPHY, 37 RXIN, 38 VDD25, 39 GND, 40 RXIP, 41 ERBIAS, 42 GNDPHY, 43 TXOP, 44 VDD, 45 GND, 46 TXON, 47 PF0, 48 OSC0, 49 OSC1, 50 NC, 51 NC, 52 NC, 53 NC, 54 GND, 55 VDD, 56 VDD, 57 GND, 58 MDIO, 59 PF3/LED0, 60 PF2/LED1, 61 PF1, 62 VDD25, 63 GND, 64 RSTn, 65 CMOD0, 66 PB0/CCP0, 67 PB1/CCP2, 68 VDD, 69 GND, 70 PB2/I2C0SCL, 71 PB3/I2C0SDA, 72 PE0, 73 PE1, 74 PE2, 75 PE3, 76 CMOD1, 77 PC3/TDO/SWO, 78 PC2/TDI, 79 PC1/TMS/SWDIO, 80 PC0/TCK/SWCLK, 81 VDD, 82 GND, 83 VCCPHY, 84 VCCPHY, 85 GNDPHY, 86 GNDPHY, 87 GND, 88 VDD25, 89 PB7/TRSTn, 90 PB6/C0+, 91 PB5/C1-, 92 PB4/C0-, 93 VDD, 94 GND, 95 PD4, 96 PD5, 97 GNDA, 98 VDDA, 99 PD6/Fault, 100 PD7/C0o

## LM3S6537-IBZ
designator U1
Stellaris ARM Cortex-M3 Microcontroller; MFG: Luminary Micro; Ordering: LM3S6537-IBZ; LMI Class: Fury
footprint BGA108C80P12X12_1000X1000X150 (BGA, 108-Leads, Body 10.0x10.0mm,  Pitch 0.80mm)
pins: A1 ADC1, A2 NC, A3 NC, A4 NC, A5 GNDA, A6 PB4/C0-, A7 PB6/C0+, A8 PB7/TRSTn, A9 PC0/TCK/SWCLK, A10 PC3/TDO/SWO, A11 PE0/PWM4, A12 PE3, B1 ADC0, B2 ADC3, B3 ADC2, B4 NC, B5 GNDA, B6 GND, B7 PB5/C1-, B8 PC2/TDI, B9 PC1/TMS/SWDIO, B10 CMOD1, B11 PE2, B12 PE1/PWM5, C1 NC, C2 NC, C3 VDD25, C4 GND, C5 GND, C6 VDDA, C7 VDDA, C8 GNDPHY, C9 GNDPHY, C10 VCCPHY, C11 PB2/I2C0SCL, C12 PB3/I2C0SDA, D1 NC, D2 NC, D3 VDD25, D10 VCCPHY, D11 VCCPHY, D12 PB1/PWM3, E1 PD4/CCP0, E2 PD5/CCP2, E3 LDO, E10 VDD33, E11 CMOD0, E12 PB0/PWM2, F1 PD7/C0o, F2 PD6/Fault, F3 VDD25, F10 GND, F11 GND, F12 GND, G1 PD0/PWM0, G2 PD1/PWM1, G3 VDD25, G10 VDD33, G11 VDD33, G12 VDD33, H1 PD3/U1Tx, H2 PD2/U1Rx, H3 GND, H10 VDD33, H11 RSTn, H12 PF1, J1 XTALNPHY, J2 XTALPPHY, J3 GND, J10 GND, J11 PF2/LED1, J12 PF3/LED0, K1 PG0, K2 PG1, K3 ERBIAS, K4 GNDPHY, K5 GND, K6 GND, K7 VDD33, K8 VDD33, K9 VDD33, K10 GND, K11 XOSC0, K12 XOSC1, L1 PC4/CCP5, L2 NC, L3 PA0/U0Rx, L4 PA3/SSI0Fss, L5 PA4/SSI0Rx, L6 PA6/CCP1, L7 RXIN, L8 TXON, L9 MDIO, L10 GND, L11 OSC0, L12 VBAT, M1 PC5/C1+, M2 PC6/CCP3, M3 PA1/U0Tx, M4 PA2/SSI0Clk, M5 PA5/SSI0Tx, M6 PA7/CCP4, M7 RXIP, M8 TXOP, M9 PF0, M10 WAKEn, M11 OSC1, M12 HIBn

## LM3S6537-IQC
designator LM3S6537
Stellaris ARM Cortex-M3 Microcontroller; MFG: Luminary Micro; Ordering: LM3S6537-IQC; LMI Class: Fury
footprint QFP50P1600X1600X160-100N
pins: 1 ADC0, 2 ADC1, 3 VDDA, 4 GNDA, 5 ADC2, 6 ADC3, 7 LDO, 8 VDD, 9 GND, 10 PD0/PWM0, 11 PD1/PWM1, 12 PD2/U1Rx, 13 PD3/U1Tx, 14 VDD25, 15 GND, 16 XTALPPHY, 17 XTALNPHY, 18 PG1, 19 PG0, 20 VDD, 21 GND, 22 NC, 23 PC6/CCP3, 24 PC5/C1+, 25 PC4/CCP5, 26 PA0/U0Rx, 27 PA1/U0Tx, 28 PA2/SSI0Clk, 29 PA3/SSI0Fss, 30 PA4/SSI0Rx, 31 PA5/SSI0Tx, 32 VDD, 33 GND, 34 PA6/CCP1, 35 PA7/CCP4, 36 VCCPHY, 37 RXIN, 38 VDD25, 39 GND, 40 RXIP, 41 ERBIAS, 42 GNDPHY, 43 TXOP, 44 VDD, 45 GND, 46 TXON, 47 PF0, 48 OSC0, 49 OSC1, 50 WAKEn, 51 HIBn, 52 XOSC0, 53 XOSC1, 54 GND, 55 VBAT, 56 VDD, 57 GND, 58 MDIO, 59 PF3/LED0, 60 PF2/LED1, 61 PF1, 62 VDD25, 63 GND, 64 RSTn, 65 CMOD0, 66 PB0/PWM2, 67 PB1/PWM3, 68 VDD, 69 GND, 70 PB2/I2C0SCL, 71 PB3/I2C0SDA, 72 PE0/PWM4, 73 PE1/PWM5, 74 PE2, 75 PE3, 76 CMOD1, 77 PC3/TDO/SWO, 78 PC2/TDI, 79 PC1/TMS/SWDIO, 80 PC0/TCK/SWCLK, 81 VDD, 82 GND, 83 VCCPHY, 84 VCCPHY, 85 GNDPHY, 86 GNDPHY, 87 GND, 88 VDD25, 89 PB7/TRSTn, 90 PB6/C0+, 91 PB5/C1-, 92 PB4/C0-, 93 VDD, 94 GND, 95 PD4/CCP0, 96 PD5/CCP2, 97 GNDA, 98 VDDA, 99 PD6/Fault, 100 PD7/C0o

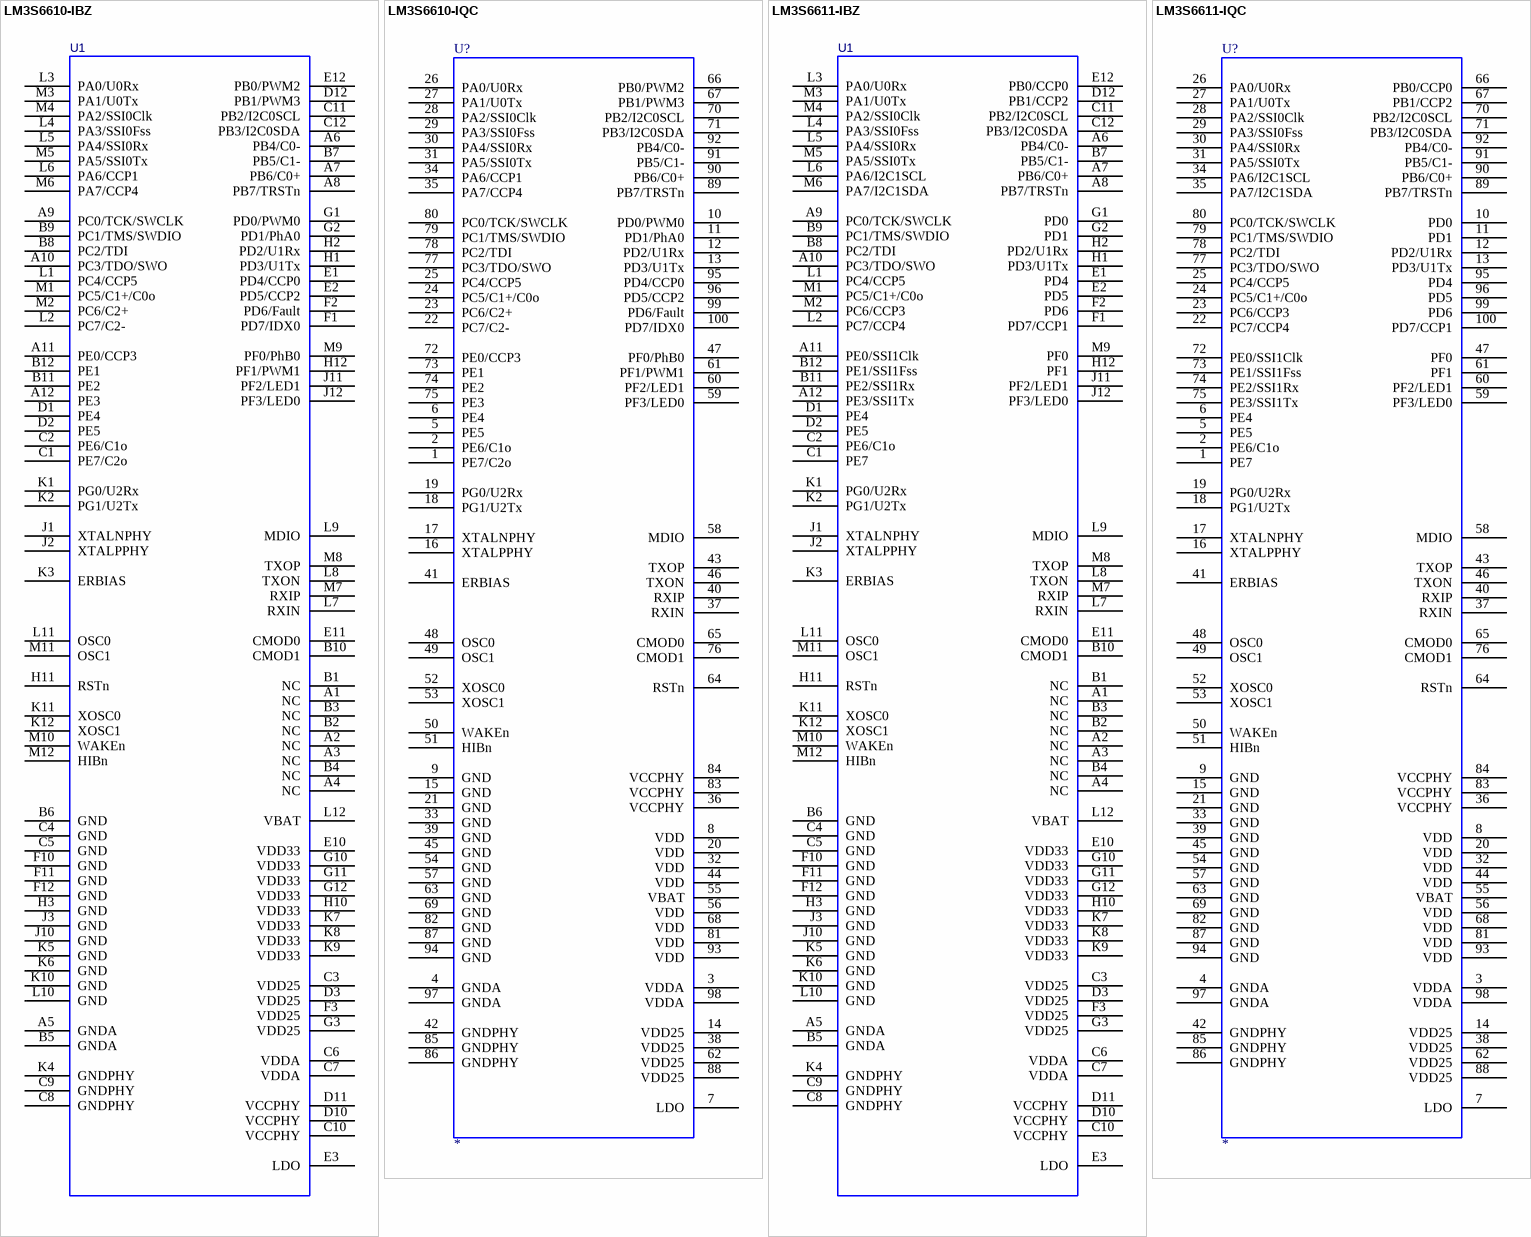
[diagram p36: symbols LM3S6610-IBZ to LM3S6611-IQC]

## LM3S6610-IBZ
designator U1
Stellaris ARM Cortex-M3 Microcontroller; MFG: Luminary Micro; Ordering: LM3S6610-IBZ; LMI Class: Fury
footprint BGA108C80P12X12_1000X1000X150 (BGA, 108-Leads, Body 10.0x10.0mm,  Pitch 0.80mm)
pins: A1 NC, A2 NC, A3 NC, A4 NC, A5 GNDA, A6 PB4/C0-, A7 PB6/C0+, A8 PB7/TRSTn, A9 PC0/TCK/SWCLK, A10 PC3/TDO/SWO, A11 PE0/CCP3, A12 PE3, B1 NC, B2 NC, B3 NC, B4 NC, B5 GNDA, B6 GND, B7 PB5/C1-, B8 PC2/TDI, B9 PC1/TMS/SWDIO, B10 CMOD1, B11 PE2, B12 PE1, C1 PE7/C2o, C2 PE6/C1o, C3 VDD25, C4 GND, C5 GND, C6 VDDA, C7 VDDA, C8 GNDPHY, C9 GNDPHY, C10 VCCPHY, C11 PB2/I2C0SCL, C12 PB3/I2C0SDA, D1 PE4, D2 PE5, D3 VDD25, D10 VCCPHY, D11 VCCPHY, D12 PB1/PWM3, E1 PD4/CCP0, E2 PD5/CCP2, E3 LDO, E10 VDD33, E11 CMOD0, E12 PB0/PWM2, F1 PD7/IDX0, F2 PD6/Fault, F3 VDD25, F10 GND, F11 GND, F12 GND, G1 PD0/PWM0, G2 PD1/PhA0, G3 VDD25, G10 VDD33, G11 VDD33, G12 VDD33, H1 PD3/U1Tx, H2 PD2/U1Rx, H3 GND, H10 VDD33, H11 RSTn, H12 PF1/PWM1, J1 XTALNPHY, J2 XTALPPHY, J3 GND, J10 GND, J11 PF2/LED1, J12 PF3/LED0, K1 PG0/U2Rx, K2 PG1/U2Tx, K3 ERBIAS, K4 GNDPHY, K5 GND, K6 GND, K7 VDD33, K8 VDD33, K9 VDD33, K10 GND, K11 XOSC0, K12 XOSC1, L1 PC4/CCP5, L2 PC7/C2-, L3 PA0/U0Rx, L4 PA3/SSI0Fss, L5 PA4/SSI0Rx, L6 PA6/CCP1, L7 RXIN, L8 TXON, L9 MDIO, L10 GND, L11 OSC0, L12 VBAT, M1 PC5/C1+/C0o, M2 PC6/C2+, M3 PA1/U0Tx, M4 PA2/SSI0Clk, M5 PA5/SSI0Tx, M6 PA7/CCP4, M7 RXIP, M8 TXOP, M9 PF0/PhB0, M10 WAKEn, M11 OSC1, M12 HIBn

## LM3S6610-IQC
designator U?
Stellaris ARM Cortex-M3 Microcontroller; MFG: Luminary Micro; Ordering: LM3S6610-IQC; LMI Class: Fury
footprint QFP50P1600X1600X160-100N
pins: 1 PE7/C2o, 2 PE6/C1o, 3 VDDA, 4 GNDA, 5 PE5, 6 PE4, 7 LDO, 8 VDD, 9 GND, 10 PD0/PWM0, 11 PD1/PhA0, 12 PD2/U1Rx, 13 PD3/U1Tx, 14 VDD25, 15 GND, 16 XTALPPHY, 17 XTALNPHY, 18 PG1/U2Tx, 19 PG0/U2Rx, 20 VDD, 21 GND, 22 PC7/C2-, 23 PC6/C2+, 24 PC5/C1+/C0o, 25 PC4/CCP5, 26 PA0/U0Rx, 27 PA1/U0Tx, 28 PA2/SSI0Clk, 29 PA3/SSI0Fss, 30 PA4/SSI0Rx, 31 PA5/SSI0Tx, 32 VDD, 33 GND, 34 PA6/CCP1, 35 PA7/CCP4, 36 VCCPHY, 37 RXIN, 38 VDD25, 39 GND, 40 RXIP, 41 ERBIAS, 42 GNDPHY, 43 TXOP, 44 VDD, 45 GND, 46 TXON, 47 PF0/PhB0, 48 OSC0, 49 OSC1, 50 WAKEn, 51 HIBn, 52 XOSC0, 53 XOSC1, 54 GND, 55 VBAT, 56 VDD, 57 GND, 58 MDIO, 59 PF3/LED0, 60 PF2/LED1, 61 PF1/PWM1, 62 VDD25, 63 GND, 64 RSTn, 65 CMOD0, 66 PB0/PWM2, 67 PB1/PWM3, 68 VDD, 69 GND, 70 PB2/I2C0SCL, 71 PB3/I2C0SDA, 72 PE0/CCP3, 73 PE1, 74 PE2, 75 PE3, 76 CMOD1, 77 PC3/TDO/SWO, 78 PC2/TDI, 79 PC1/TMS/SWDIO, 80 PC0/TCK/SWCLK, 81 VDD, 82 GND, 83 VCCPHY, 84 VCCPHY, 85 GNDPHY, 86 GNDPHY, 87 GND, 88 VDD25, 89 PB7/TRSTn, 90 PB6/C0+, 91 PB5/C1-, 92 PB4/C0-, 93 VDD, 94 GND, 95 PD4/CCP0, 96 PD5/CCP2, 97 GNDA, 98 VDDA, 99 PD6/Fault, 100 PD7/IDX0

## LM3S6611-IBZ
designator U1
Stellaris ARM Cortex-M3 Microcontroller; MFG: Luminary Micro; Ordering: LM3S6611-IBZ; LMI Class: Fury
footprint BGA108C80P12X12_1000X1000X150 (BGA, 108-Leads, Body 10.0x10.0mm,  Pitch 0.80mm)
pins: A1 NC, A2 NC, A3 NC, A4 NC, A5 GNDA, A6 PB4/C0-, A7 PB6/C0+, A8 PB7/TRSTn, A9 PC0/TCK/SWCLK, A10 PC3/TDO/SWO, A11 PE0/SSI1Clk, A12 PE3/SSI1Tx, B1 NC, B2 NC, B3 NC, B4 NC, B5 GNDA, B6 GND, B7 PB5/C1-, B8 PC2/TDI, B9 PC1/TMS/SWDIO, B10 CMOD1, B11 PE2/SSI1Rx, B12 PE1/SSI1Fss, C1 PE7, C2 PE6/C1o, C3 VDD25, C4 GND, C5 GND, C6 VDDA, C7 VDDA, C8 GNDPHY, C9 GNDPHY, C10 VCCPHY, C11 PB2/I2C0SCL, C12 PB3/I2C0SDA, D1 PE4, D2 PE5, D3 VDD25, D10 VCCPHY, D11 VCCPHY, D12 PB1/CCP2, E1 PD4, E2 PD5, E3 LDO, E10 VDD33, E11 CMOD0, E12 PB0/CCP0, F1 PD7/CCP1, F2 PD6, F3 VDD25, F10 GND, F11 GND, F12 GND, G1 PD0, G2 PD1, G3 VDD25, G10 VDD33, G11 VDD33, G12 VDD33, H1 PD3/U1Tx, H2 PD2/U1Rx, H3 GND, H10 VDD33, H11 RSTn, H12 PF1, J1 XTALNPHY, J2 XTALPPHY, J3 GND, J10 GND, J11 PF2/LED1, J12 PF3/LED0, K1 PG0/U2Rx, K2 PG1/U2Tx, K3 ERBIAS, K4 GNDPHY, K5 GND, K6 GND, K7 VDD33, K8 VDD33, K9 VDD33, K10 GND, K11 XOSC0, K12 XOSC1, L1 PC4/CCP5, L2 PC7/CCP4, L3 PA0/U0Rx, L4 PA3/SSI0Fss, L5 PA4/SSI0Rx, L6 PA6/I2C1SCL, L7 RXIN, L8 TXON, L9 MDIO, L10 GND, L11 OSC0, L12 VBAT, M1 PC5/C1+/C0o, M2 PC6/CCP3, M3 PA1/U0Tx, M4 PA2/SSI0Clk, M5 PA5/SSI0Tx, M6 PA7/I2C1SDA, M7 RXIP, M8 TXOP, M9 PF0, M10 WAKEn, M11 OSC1, M12 HIBn

## LM3S6611-IQC
designator U?
Stellaris ARM Cortex-M3 Microcontroller; MFG: Luminary Micro; Ordering: LM3S6611-IQC; LMI Class: Fury
footprint QFP50P1600X1600X160-100N
pins: 1 PE7, 2 PE6/C1o, 3 VDDA, 4 GNDA, 5 PE5, 6 PE4, 7 LDO, 8 VDD, 9 GND, 10 PD0, 11 PD1, 12 PD2/U1Rx, 13 PD3/U1Tx, 14 VDD25, 15 GND, 16 XTALPPHY, 17 XTALNPHY, 18 PG1/U2Tx, 19 PG0/U2Rx, 20 VDD, 21 GND, 22 PC7/CCP4, 23 PC6/CCP3, 24 PC5/C1+/C0o, 25 PC4/CCP5, 26 PA0/U0Rx, 27 PA1/U0Tx, 28 PA2/SSI0Clk, 29 PA3/SSI0Fss, 30 PA4/SSI0Rx, 31 PA5/SSI0Tx, 32 VDD, 33 GND, 34 PA6/I2C1SCL, 35 PA7/I2C1SDA, 36 VCCPHY, 37 RXIN, 38 VDD25, 39 GND, 40 RXIP, 41 ERBIAS, 42 GNDPHY, 43 TXOP, 44 VDD, 45 GND, 46 TXON, 47 PF0, 48 OSC0, 49 OSC1, 50 WAKEn, 51 HIBn, 52 XOSC0, 53 XOSC1, 54 GND, 55 VBAT, 56 VDD, 57 GND, 58 MDIO, 59 PF3/LED0, 60 PF2/LED1, 61 PF1, 62 VDD25, 63 GND, 64 RSTn, 65 CMOD0, 66 PB0/CCP0, 67 PB1/CCP2, 68 VDD, 69 GND, 70 PB2/I2C0SCL, 71 PB3/I2C0SDA, 72 PE0/SSI1Clk, 73 PE1/SSI1Fss, 74 PE2/SSI1Rx, 75 PE3/SSI1Tx, 76 CMOD1, 77 PC3/TDO/SWO, 78 PC2/TDI, 79 PC1/TMS/SWDIO, 80 PC0/TCK/SWCLK, 81 VDD, 82 GND, 83 VCCPHY, 84 VCCPHY, 85 GNDPHY, 86 GNDPHY, 87 GND, 88 VDD25, 89 PB7/TRSTn, 90 PB6/C0+, 91 PB5/C1-, 92 PB4/C0-, 93 VDD, 94 GND, 95 PD4, 96 PD5, 97 GNDA, 98 VDDA, 99 PD6, 100 PD7/CCP1

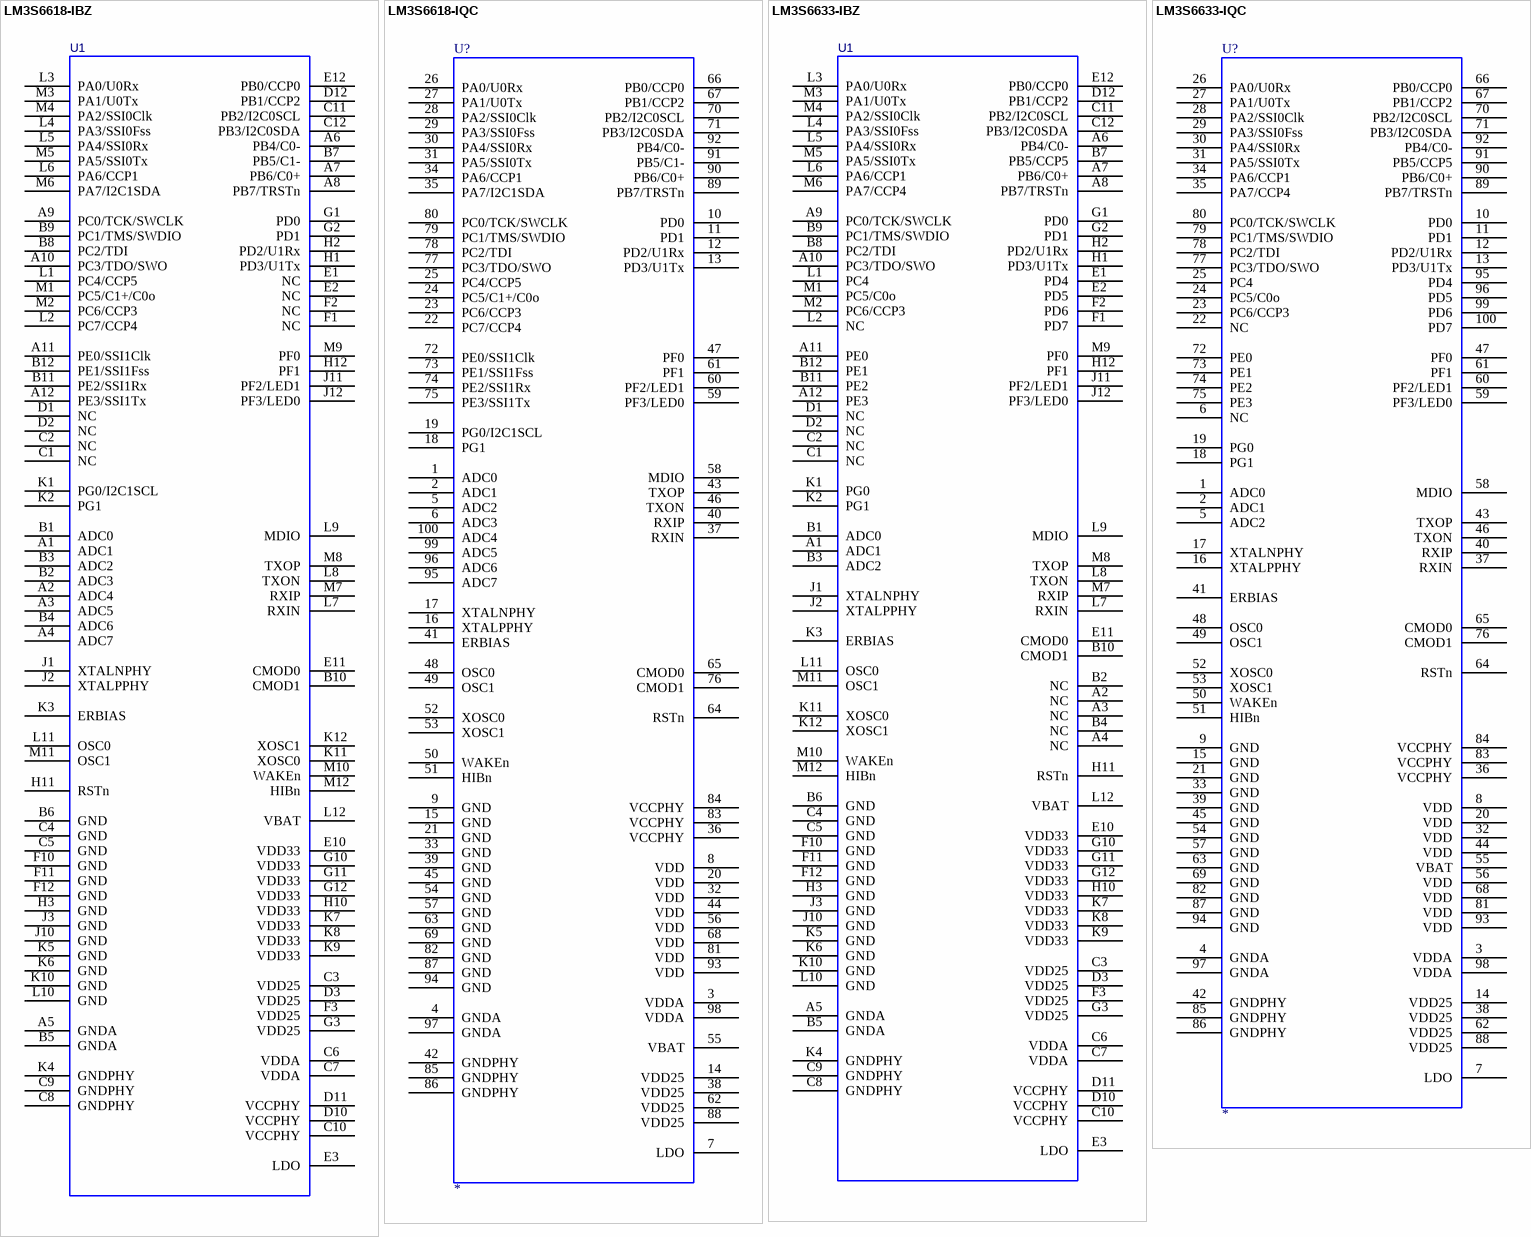
[diagram p37: symbols LM3S6618-IBZ to LM3S6633-IQC]

## LM3S6618-IBZ
designator U1
Stellaris ARM Cortex-M3 Microcontroller; MFG: Luminary Micro; Ordering: LM3S6618-IBZ; LMI Class: Fury
footprint BGA108C80P12X12_1000X1000X150 (BGA, 108-Leads, Body 10.0x10.0mm,  Pitch 0.80mm)
pins: A1 ADC1, A2 ADC4, A3 ADC5, A4 ADC7, A5 GNDA, A6 PB4/C0-, A7 PB6/C0+, A8 PB7/TRSTn, A9 PC0/TCK/SWCLK, A10 PC3/TDO/SWO, A11 PE0/SSI1Clk, A12 PE3/SSI1Tx, B1 ADC0, B2 ADC3, B3 ADC2, B4 ADC6, B5 GNDA, B6 GND, B7 PB5/C1-, B8 PC2/TDI, B9 PC1/TMS/SWDIO, B10 CMOD1, B11 PE2/SSI1Rx, B12 PE1/SSI1Fss, C1 NC, C2 NC, C3 VDD25, C4 GND, C5 GND, C6 VDDA, C7 VDDA, C8 GNDPHY, C9 GNDPHY, C10 VCCPHY, C11 PB2/I2C0SCL, C12 PB3/I2C0SDA, D1 NC, D2 NC, D3 VDD25, D10 VCCPHY, D11 VCCPHY, D12 PB1/CCP2, E1 NC, E2 NC, E3 LDO, E10 VDD33, E11 CMOD0, E12 PB0/CCP0, F1 NC, F2 NC, F3 VDD25, F10 GND, F11 GND, F12 GND, G1 PD0, G2 PD1, G3 VDD25, G10 VDD33, G11 VDD33, G12 VDD33, H1 PD3/U1Tx, H2 PD2/U1Rx, H3 GND, H10 VDD33, H11 RSTn, H12 PF1, J1 XTALNPHY, J2 XTALPPHY, J3 GND, J10 GND, J11 PF2/LED1, J12 PF3/LED0, K1 PG0/I2C1SCL, K2 PG1, K3 ERBIAS, K4 GNDPHY, K5 GND, K6 GND, K7 VDD33, K8 VDD33, K9 VDD33, K10 GND, K11 XOSC0, K12 XOSC1, L1 PC4/CCP5, L2 PC7/CCP4, L3 PA0/U0Rx, L4 PA3/SSI0Fss, L5 PA4/SSI0Rx, L6 PA6/CCP1, L7 RXIN, L8 TXON, L9 MDIO, L10 GND, L11 OSC0, L12 VBAT, M1 PC5/C1+/C0o, M2 PC6/CCP3, M3 PA1/U0Tx, M4 PA2/SSI0Clk, M5 PA5/SSI0Tx, M6 PA7/I2C1SDA, M7 RXIP, M8 TXOP, M9 PF0, M10 WAKEn, M11 OSC1, M12 HIBn

## LM3S6618-IQC
designator U?
Stellaris ARM Cortex-M3 Microcontroller; MFG: Luminary Micro; Ordering: LM3S6618-IQC; LMI Class: Fury
footprint QFP50P1600X1600X160-100N
pins: 1 ADC0, 2 ADC1, 3 VDDA, 4 GNDA, 5 ADC2, 6 ADC3, 7 LDO, 8 VDD, 9 GND, 10 PD0, 11 PD1, 12 PD2/U1Rx, 13 PD3/U1Tx, 14 VDD25, 15 GND, 16 XTALPPHY, 17 XTALNPHY, 18 PG1, 19 PG0/I2C1SCL, 20 VDD, 21 GND, 22 PC7/CCP4, 23 PC6/CCP3, 24 PC5/C1+/C0o, 25 PC4/CCP5, 26 PA0/U0Rx, 27 PA1/U0Tx, 28 PA2/SSI0Clk, 29 PA3/SSI0Fss, 30 PA4/SSI0Rx, 31 PA5/SSI0Tx, 32 VDD, 33 GND, 34 PA6/CCP1, 35 PA7/I2C1SDA, 36 VCCPHY, 37 RXIN, 38 VDD25, 39 GND, 40 RXIP, 41 ERBIAS, 42 GNDPHY, 43 TXOP, 44 VDD, 45 GND, 46 TXON, 47 PF0, 48 OSC0, 49 OSC1, 50 WAKEn, 51 HIBn, 52 XOSC0, 53 XOSC1, 54 GND, 55 VBAT, 56 VDD, 57 GND, 58 MDIO, 59 PF3/LED0, 60 PF2/LED1, 61 PF1, 62 VDD25, 63 GND, 64 RSTn, 65 CMOD0, 66 PB0/CCP0, 67 PB1/CCP2, 68 VDD, 69 GND, 70 PB2/I2C0SCL, 71 PB3/I2C0SDA, 72 PE0/SSI1Clk, 73 PE1/SSI1Fss, 74 PE2/SSI1Rx, 75 PE3/SSI1Tx, 76 CMOD1, 77 PC3/TDO/SWO, 78 PC2/TDI, 79 PC1/TMS/SWDIO, 80 PC0/TCK/SWCLK, 81 VDD, 82 GND, 83 VCCPHY, 84 VCCPHY, 85 GNDPHY, 86 GNDPHY, 87 GND, 88 VDD25, 89 PB7/TRSTn, 90 PB6/C0+, 91 PB5/C1-, 92 PB4/C0-, 93 VDD, 94 GND, 95 ADC7, 96 ADC6, 97 GNDA, 98 VDDA, 99 ADC5, 100 ADC4

## LM3S6633-IBZ
designator U1
Stellaris ARM Cortex-M3 Microcontroller; MFG: Luminary Micro; Ordering: LM3S6633-IBZ; LMI Class: Fury
footprint BGA108C80P12X12_1000X1000X150 (BGA, 108-Leads, Body 10.0x10.0mm,  Pitch 0.80mm)
pins: A1 ADC1, A2 NC, A3 NC, A4 NC, A5 GNDA, A6 PB4/C0-, A7 PB6/C0+, A8 PB7/TRSTn, A9 PC0/TCK/SWCLK, A10 PC3/TDO/SWO, A11 PE0, A12 PE3, B1 ADC0, B2 NC, B3 ADC2, B4 NC, B5 GNDA, B6 GND, B7 PB5/CCP5, B8 PC2/TDI, B9 PC1/TMS/SWDIO, B10 CMOD1, B11 PE2, B12 PE1, C1 NC, C2 NC, C3 VDD25, C4 GND, C5 GND, C6 VDDA, C7 VDDA, C8 GNDPHY, C9 GNDPHY, C10 VCCPHY, C11 PB2/I2C0SCL, C12 PB3/I2C0SDA, D1 NC, D2 NC, D3 VDD25, D10 VCCPHY, D11 VCCPHY, D12 PB1/CCP2, E1 PD4, E2 PD5, E3 LDO, E10 VDD33, E11 CMOD0, E12 PB0/CCP0, F1 PD7, F2 PD6, F3 VDD25, F10 GND, F11 GND, F12 GND, G1 PD0, G2 PD1, G3 VDD25, G10 VDD33, G11 VDD33, G12 VDD33, H1 PD3/U1Tx, H2 PD2/U1Rx, H3 GND, H10 VDD33, H11 RSTn, H12 PF1, J1 XTALNPHY, J2 XTALPPHY, J3 GND, J10 GND, J11 PF2/LED1, J12 PF3/LED0, K1 PG0, K2 PG1, K3 ERBIAS, K4 GNDPHY, K5 GND, K6 GND, K7 VDD33, K8 VDD33, K9 VDD33, K10 GND, K11 XOSC0, K12 XOSC1, L1 PC4, L2 NC, L3 PA0/U0Rx, L4 PA3/SSI0Fss, L5 PA4/SSI0Rx, L6 PA6/CCP1, L7 RXIN, L8 TXON, L9 MDIO, L10 GND, L11 OSC0, L12 VBAT, M1 PC5/C0o, M2 PC6/CCP3, M3 PA1/U0Tx, M4 PA2/SSI0Clk, M5 PA5/SSI0Tx, M6 PA7/CCP4, M7 RXIP, M8 TXOP, M9 PF0, M10 WAKEn, M11 OSC1, M12 HIBn

## LM3S6633-IQC
designator U?
Stellaris ARM Cortex-M3 Microcontroller; MFG: Luminary Micro; Ordering: LM3S6633-IQC; LMI Class: Fury
footprint QFP50P1600X1600X160-100N
pins: 1 ADC0, 2 ADC1, 3 VDDA, 4 GNDA, 5 ADC2, 6 NC, 7 LDO, 8 VDD, 9 GND, 10 PD0, 11 PD1, 12 PD2/U1Rx, 13 PD3/U1Tx, 14 VDD25, 15 GND, 16 XTALPPHY, 17 XTALNPHY, 18 PG1, 19 PG0, 20 VDD, 21 GND, 22 NC, 23 PC6/CCP3, 24 PC5/C0o, 25 PC4, 26 PA0/U0Rx, 27 PA1/U0Tx, 28 PA2/SSI0Clk, 29 PA3/SSI0Fss, 30 PA4/SSI0Rx, 31 PA5/SSI0Tx, 32 VDD, 33 GND, 34 PA6/CCP1, 35 PA7/CCP4, 36 VCCPHY, 37 RXIN, 38 VDD25, 39 GND, 40 RXIP, 41 ERBIAS, 42 GNDPHY, 43 TXOP, 44 VDD, 45 GND, 46 TXON, 47 PF0, 48 OSC0, 49 OSC1, 50 WAKEn, 51 HIBn, 52 XOSC0, 53 XOSC1, 54 GND, 55 VBAT, 56 VDD, 57 GND, 58 MDIO, 59 PF3/LED0, 60 PF2/LED1, 61 PF1, 62 VDD25, 63 GND, 64 RSTn, 65 CMOD0, 66 PB0/CCP0, 67 PB1/CCP2, 68 VDD, 69 GND, 70 PB2/I2C0SCL, 71 PB3/I2C0SDA, 72 PE0, 73 PE1, 74 PE2, 75 PE3, 76 CMOD1, 77 PC3/TDO/SWO, 78 PC2/TDI, 79 PC1/TMS/SWDIO, 80 PC0/TCK/SWCLK, 81 VDD, 82 GND, 83 VCCPHY, 84 VCCPHY, 85 GNDPHY, 86 GNDPHY, 87 GND, 88 VDD25, 89 PB7/TRSTn, 90 PB6/C0+, 91 PB5/CCP5, 92 PB4/C0-, 93 VDD, 94 GND, 95 PD4, 96 PD5, 97 GNDA, 98 VDDA, 99 PD6, 100 PD7

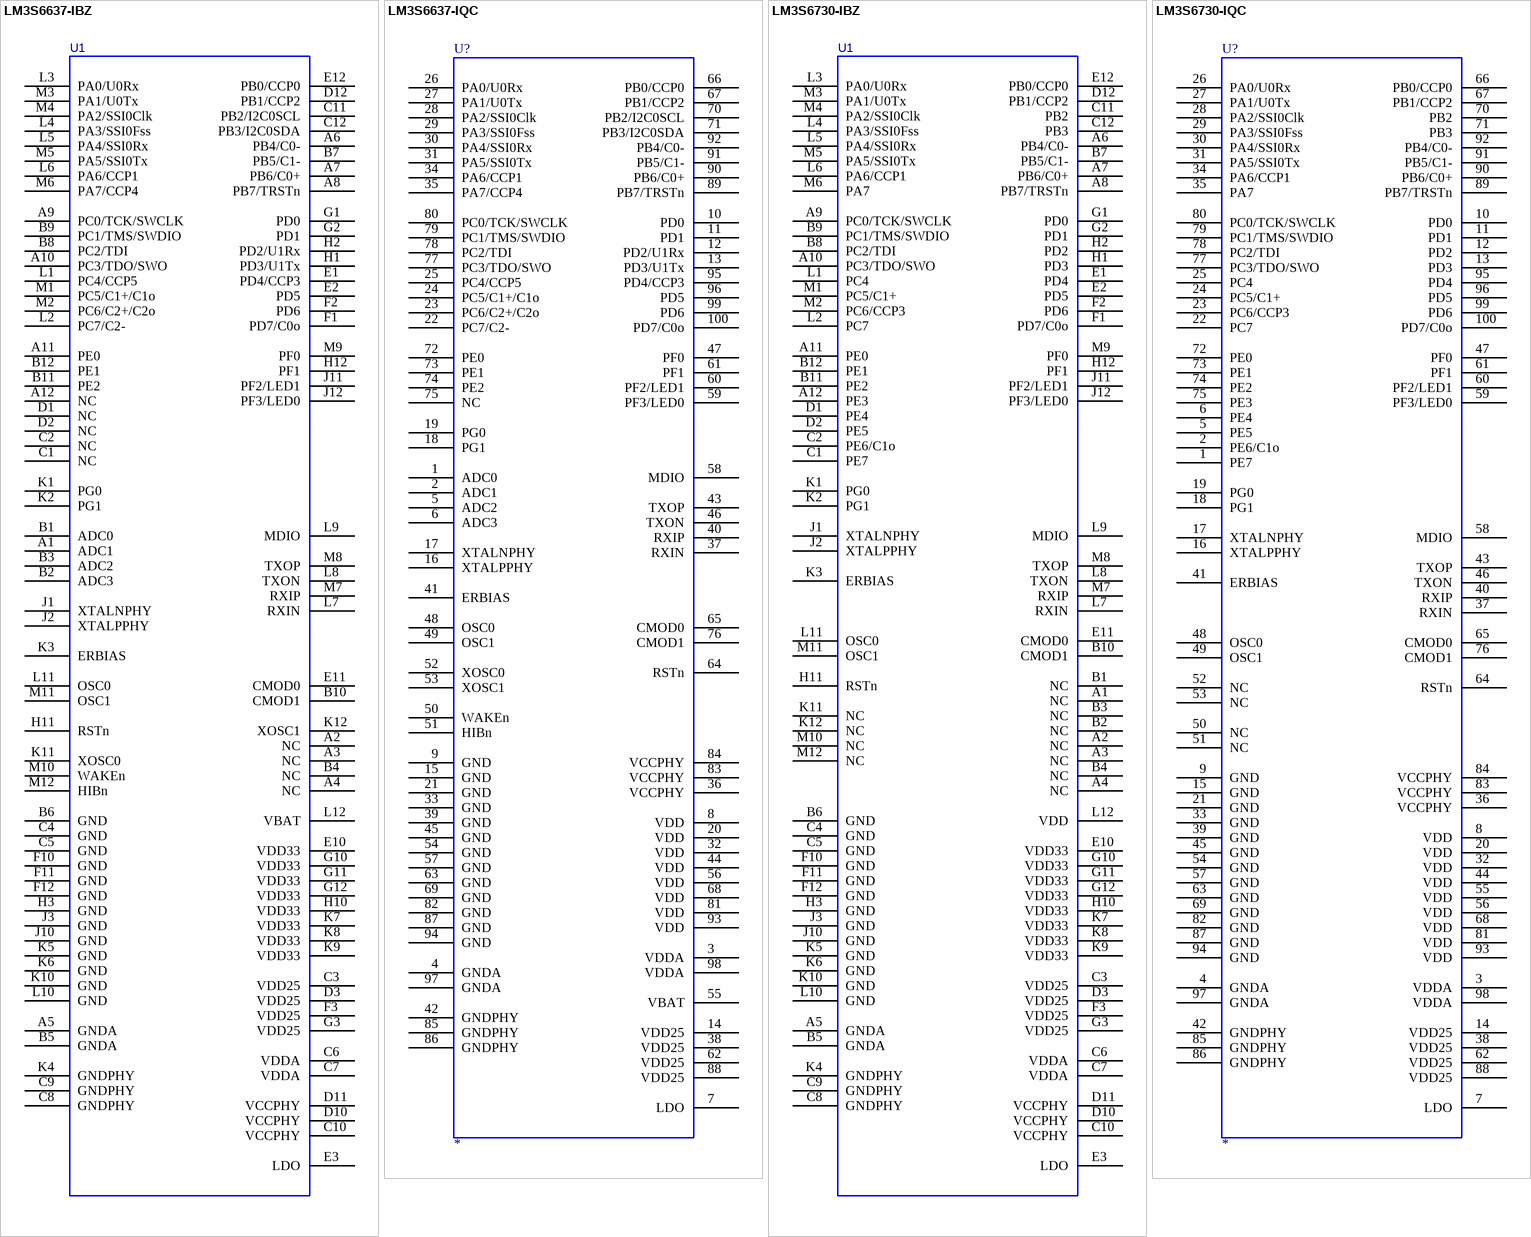
[diagram p38: symbols LM3S6637-IBZ to LM3S6730-IQC]

## LM3S6637-IBZ
designator U1
Stellaris ARM Cortex-M3 Microcontroller; MFG: Luminary Micro; Ordering: LM3S6637-IBZ; LMI Class: Fury
footprint BGA108C80P12X12_1000X1000X150 (BGA, 108-Leads, Body 10.0x10.0mm,  Pitch 0.80mm)
pins: A1 ADC1, A2 NC, A3 NC, A4 NC, A5 GNDA, A6 PB4/C0-, A7 PB6/C0+, A8 PB7/TRSTn, A9 PC0/TCK/SWCLK, A10 PC3/TDO/SWO, A11 PE0, A12 NC, B1 ADC0, B2 ADC3, B3 ADC2, B4 NC, B5 GNDA, B6 GND, B7 PB5/C1-, B8 PC2/TDI, B9 PC1/TMS/SWDIO, B10 CMOD1, B11 PE2, B12 PE1, C1 NC, C2 NC, C3 VDD25, C4 GND, C5 GND, C6 VDDA, C7 VDDA, C8 GNDPHY, C9 GNDPHY, C10 VCCPHY, C11 PB2/I2C0SCL, C12 PB3/I2C0SDA, D1 NC, D2 NC, D3 VDD25, D10 VCCPHY, D11 VCCPHY, D12 PB1/CCP2, E1 PD4/CCP3, E2 PD5, E3 LDO, E10 VDD33, E11 CMOD0, E12 PB0/CCP0, F1 PD7/C0o, F2 PD6, F3 VDD25, F10 GND, F11 GND, F12 GND, G1 PD0, G2 PD1, G3 VDD25, G10 VDD33, G11 VDD33, G12 VDD33, H1 PD3/U1Tx, H2 PD2/U1Rx, H3 GND, H10 VDD33, H11 RSTn, H12 PF1, J1 XTALNPHY, J2 XTALPPHY, J3 GND, J10 GND, J11 PF2/LED1, J12 PF3/LED0, K1 PG0, K2 PG1, K3 ERBIAS, K4 GNDPHY, K5 GND, K6 GND, K7 VDD33, K8 VDD33, K9 VDD33, K10 GND, K11 XOSC0, K12 XOSC1, L1 PC4/CCP5, L2 PC7/C2-, L3 PA0/U0Rx, L4 PA3/SSI0Fss, L5 PA4/SSI0Rx, L6 PA6/CCP1, L7 RXIN, L8 TXON, L9 MDIO, L10 GND, L11 OSC0, L12 VBAT, M1 PC5/C1+/C1o, M2 PC6/C2+/C2o, M3 PA1/U0Tx, M4 PA2/SSI0Clk, M5 PA5/SSI0Tx, M6 PA7/CCP4, M7 RXIP, M8 TXOP, M9 PF0, M10 WAKEn, M11 OSC1, M12 HIBn

## LM3S6637-IQC
designator U?
Stellaris ARM Cortex-M3 Microcontroller; MFG: Luminary Micro; Ordering: LM3S6637-IQC; LMI Class: Fury
footprint QFP50P1600X1600X160-100N
pins: 1 ADC0, 2 ADC1, 3 VDDA, 4 GNDA, 5 ADC2, 6 ADC3, 7 LDO, 8 VDD, 9 GND, 10 PD0, 11 PD1, 12 PD2/U1Rx, 13 PD3/U1Tx, 14 VDD25, 15 GND, 16 XTALPPHY, 17 XTALNPHY, 18 PG1, 19 PG0, 20 VDD, 21 GND, 22 PC7/C2-, 23 PC6/C2+/C2o, 24 PC5/C1+/C1o, 25 PC4/CCP5, 26 PA0/U0Rx, 27 PA1/U0Tx, 28 PA2/SSI0Clk, 29 PA3/SSI0Fss, 30 PA4/SSI0Rx, 31 PA5/SSI0Tx, 32 VDD, 33 GND, 34 PA6/CCP1, 35 PA7/CCP4, 36 VCCPHY, 37 RXIN, 38 VDD25, 39 GND, 40 RXIP, 41 ERBIAS, 42 GNDPHY, 43 TXOP, 44 VDD, 45 GND, 46 TXON, 47 PF0, 48 OSC0, 49 OSC1, 50 WAKEn, 51 HIBn, 52 XOSC0, 53 XOSC1, 54 GND, 55 VBAT, 56 VDD, 57 GND, 58 MDIO, 59 PF3/LED0, 60 PF2/LED1, 61 PF1, 62 VDD25, 63 GND, 64 RSTn, 65 CMOD0, 66 PB0/CCP0, 67 PB1/CCP2, 68 VDD, 69 GND, 70 PB2/I2C0SCL, 71 PB3/I2C0SDA, 72 PE0, 73 PE1, 74 PE2, 75 NC, 76 CMOD1, 77 PC3/TDO/SWO, 78 PC2/TDI, 79 PC1/TMS/SWDIO, 80 PC0/TCK/SWCLK, 81 VDD, 82 GND, 83 VCCPHY, 84 VCCPHY, 85 GNDPHY, 86 GNDPHY, 87 GND, 88 VDD25, 89 PB7/TRSTn, 90 PB6/C0+, 91 PB5/C1-, 92 PB4/C0-, 93 VDD, 94 GND, 95 PD4/CCP3, 96 PD5, 97 GNDA, 98 VDDA, 99 PD6, 100 PD7/C0o

## LM3S6730-IBZ
designator U1
Stellaris ARM Cortex-M3 Microcontroller; MFG: Luminary Micro; Ordering: LM3S6730-IBZ; LMI Class: Fury
footprint BGA108C80P12X12_1000X1000X150 (BGA, 108-Leads, Body 10.0x10.0mm,  Pitch 0.80mm)
pins: A1 NC, A2 NC, A3 NC, A4 NC, A5 GNDA, A6 PB4/C0-, A7 PB6/C0+, A8 PB7/TRSTn, A9 PC0/TCK/SWCLK, A10 PC3/TDO/SWO, A11 PE0, A12 PE3, B1 NC, B2 NC, B3 NC, B4 NC, B5 GNDA, B6 GND, B7 PB5/C1-, B8 PC2/TDI, B9 PC1/TMS/SWDIO, B10 CMOD1, B11 PE2, B12 PE1, C1 PE7, C2 PE6/C1o, C3 VDD25, C4 GND, C5 GND, C6 VDDA, C7 VDDA, C8 GNDPHY, C9 GNDPHY, C10 VCCPHY, C11 PB2, C12 PB3, D1 PE4, D2 PE5, D3 VDD25, D10 VCCPHY, D11 VCCPHY, D12 PB1/CCP2, E1 PD4, E2 PD5, E3 LDO, E10 VDD33, E11 CMOD0, E12 PB0/CCP0, F1 PD7/C0o, F2 PD6, F3 VDD25, F10 GND, F11 GND, F12 GND, G1 PD0, G2 PD1, G3 VDD25, G10 VDD33, G11 VDD33, G12 VDD33, H1 PD3, H2 PD2, H3 GND, H10 VDD33, H11 RSTn, H12 PF1, J1 XTALNPHY, J2 XTALPPHY, J3 GND, J10 GND, J11 PF2/LED1, J12 PF3/LED0, K1 PG0, K2 PG1, K3 ERBIAS, K4 GNDPHY, K5 GND, K6 GND, K7 VDD33, K8 VDD33, K9 VDD33, K10 GND, K11 NC, K12 NC, L1 PC4, L2 PC7, L3 PA0/U0Rx, L4 PA3/SSI0Fss, L5 PA4/SSI0Rx, L6 PA6/CCP1, L7 RXIN, L8 TXON, L9 MDIO, L10 GND, L11 OSC0, L12 VDD, M1 PC5/C1+, M2 PC6/CCP3, M3 PA1/U0Tx, M4 PA2/SSI0Clk, M5 PA5/SSI0Tx, M6 PA7, M7 RXIP, M8 TXOP, M9 PF0, M10 NC, M11 OSC1, M12 NC

## LM3S6730-IQC
designator U?
Stellaris ARM Cortex-M3 Microcontroller; MFG: Luminary Micro; Ordering: LM3S6730-IQC; LMI Class: Fury
footprint QFP50P1600X1600X160-100N
pins: 1 PE7, 2 PE6/C1o, 3 VDDA, 4 GNDA, 5 PE5, 6 PE4, 7 LDO, 8 VDD, 9 GND, 10 PD0, 11 PD1, 12 PD2, 13 PD3, 14 VDD25, 15 GND, 16 XTALPPHY, 17 XTALNPHY, 18 PG1, 19 PG0, 20 VDD, 21 GND, 22 PC7, 23 PC6/CCP3, 24 PC5/C1+, 25 PC4, 26 PA0/U0Rx, 27 PA1/U0Tx, 28 PA2/SSI0Clk, 29 PA3/SSI0Fss, 30 PA4/SSI0Rx, 31 PA5/SSI0Tx, 32 VDD, 33 GND, 34 PA6/CCP1, 35 PA7, 36 VCCPHY, 37 RXIN, 38 VDD25, 39 GND, 40 RXIP, 41 ERBIAS, 42 GNDPHY, 43 TXOP, 44 VDD, 45 GND, 46 TXON, 47 PF0, 48 OSC0, 49 OSC1, 50 NC, 51 NC, 52 NC, 53 NC, 54 GND, 55 VDD, 56 VDD, 57 GND, 58 MDIO, 59 PF3/LED0, 60 PF2/LED1, 61 PF1, 62 VDD25, 63 GND, 64 RSTn, 65 CMOD0, 66 PB0/CCP0, 67 PB1/CCP2, 68 VDD, 69 GND, 70 PB2, 71 PB3, 72 PE0, 73 PE1, 74 PE2, 75 PE3, 76 CMOD1, 77 PC3/TDO/SWO, 78 PC2/TDI, 79 PC1/TMS/SWDIO, 80 PC0/TCK/SWCLK, 81 VDD, 82 GND, 83 VCCPHY, 84 VCCPHY, 85 GNDPHY, 86 GNDPHY, 87 GND, 88 VDD25, 89 PB7/TRSTn, 90 PB6/C0+, 91 PB5/C1-, 92 PB4/C0-, 93 VDD, 94 GND, 95 PD4, 96 PD5, 97 GNDA, 98 VDDA, 99 PD6, 100 PD7/C0o

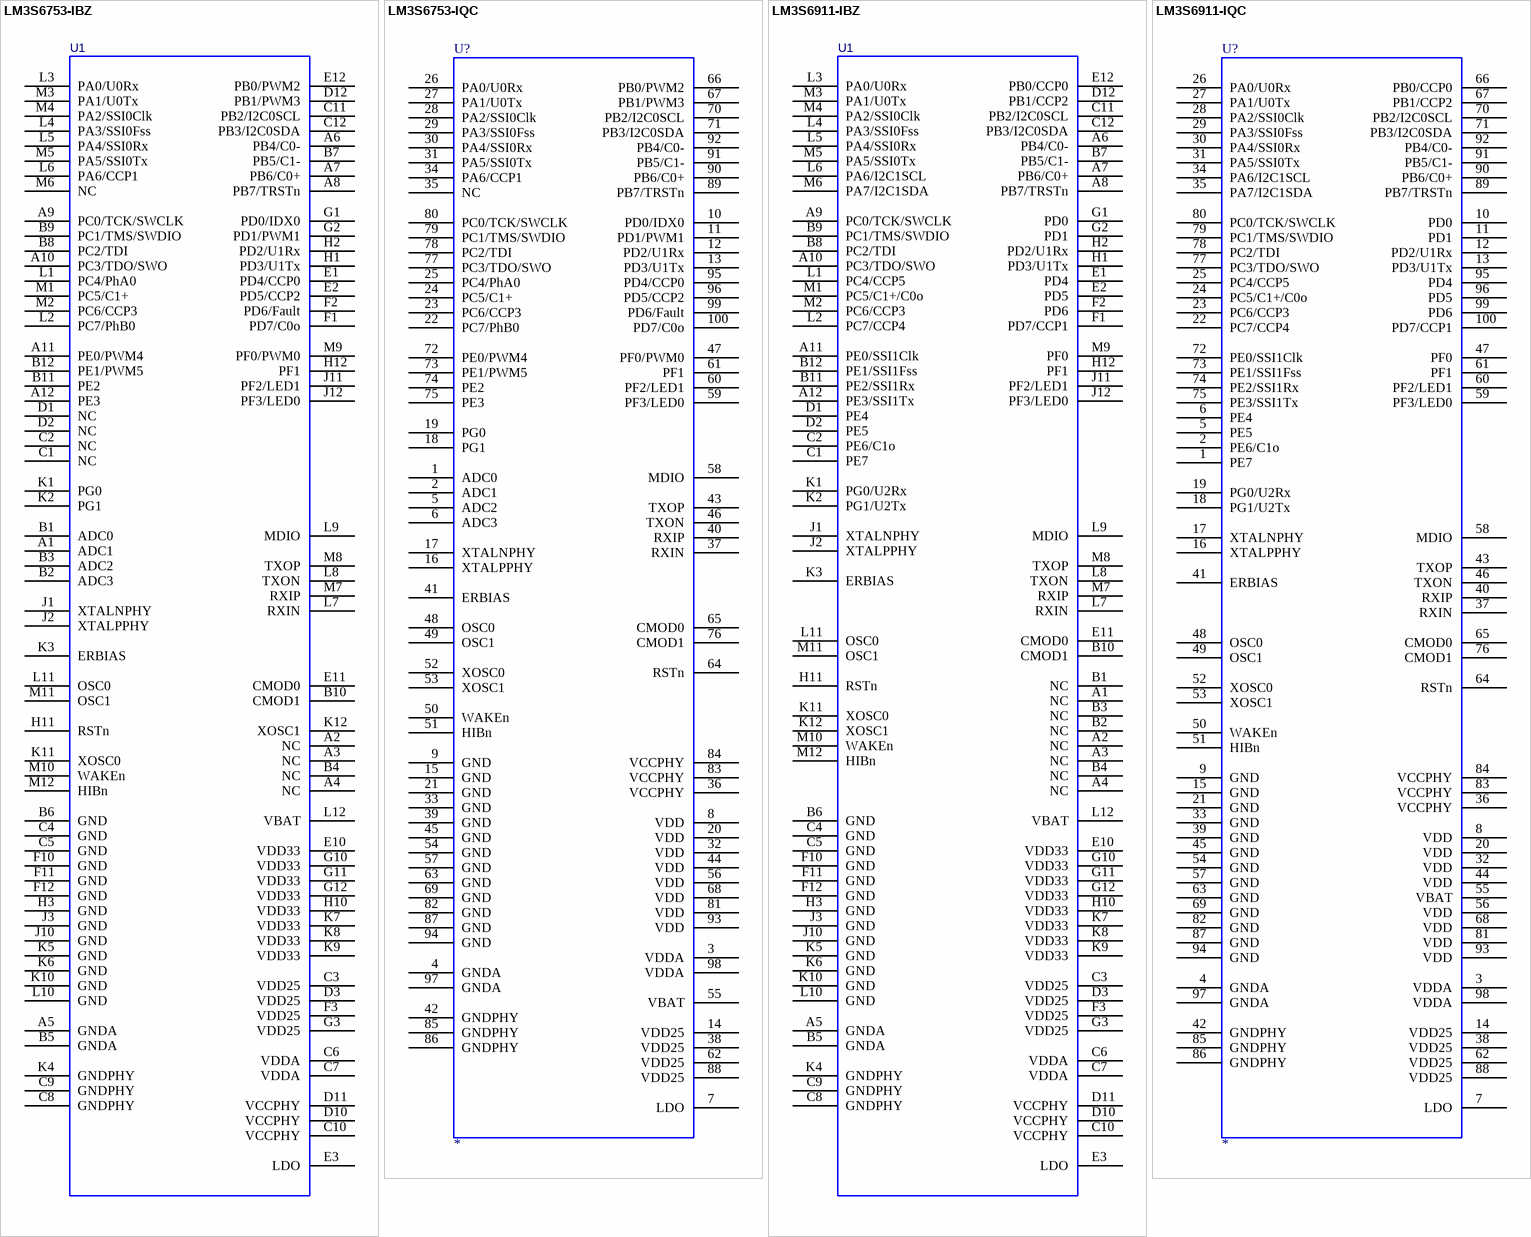
[diagram p39: symbols LM3S6753-IBZ to LM3S6911-IQC]

## LM3S6753-IBZ
designator U1
Stellaris ARM Cortex-M3 Microcontroller; MFG: Luminary Micro; Ordering: LM3S6753-IBZ; LMI Class: Fury
footprint BGA108C80P12X12_1000X1000X150 (BGA, 108-Leads, Body 10.0x10.0mm,  Pitch 0.80mm)
pins: A1 ADC1, A2 NC, A3 NC, A4 NC, A5 GNDA, A6 PB4/C0-, A7 PB6/C0+, A8 PB7/TRSTn, A9 PC0/TCK/SWCLK, A10 PC3/TDO/SWO, A11 PE0/PWM4, A12 PE3, B1 ADC0, B2 ADC3, B3 ADC2, B4 NC, B5 GNDA, B6 GND, B7 PB5/C1-, B8 PC2/TDI, B9 PC1/TMS/SWDIO, B10 CMOD1, B11 PE2, B12 PE1/PWM5, C1 NC, C2 NC, C3 VDD25, C4 GND, C5 GND, C6 VDDA, C7 VDDA, C8 GNDPHY, C9 GNDPHY, C10 VCCPHY, C11 PB2/I2C0SCL, C12 PB3/I2C0SDA, D1 NC, D2 NC, D3 VDD25, D10 VCCPHY, D11 VCCPHY, D12 PB1/PWM3, E1 PD4/CCP0, E2 PD5/CCP2, E3 LDO, E10 VDD33, E11 CMOD0, E12 PB0/PWM2, F1 PD7/C0o, F2 PD6/Fault, F3 VDD25, F10 GND, F11 GND, F12 GND, G1 PD0/IDX0, G2 PD1/PWM1, G3 VDD25, G10 VDD33, G11 VDD33, G12 VDD33, H1 PD3/U1Tx, H2 PD2/U1Rx, H3 GND, H10 VDD33, H11 RSTn, H12 PF1, J1 XTALNPHY, J2 XTALPPHY, J3 GND, J10 GND, J11 PF2/LED1, J12 PF3/LED0, K1 PG0, K2 PG1, K3 ERBIAS, K4 GNDPHY, K5 GND, K6 GND, K7 VDD33, K8 VDD33, K9 VDD33, K10 GND, K11 XOSC0, K12 XOSC1, L1 PC4/PhA0, L2 PC7/PhB0, L3 PA0/U0Rx, L4 PA3/SSI0Fss, L5 PA4/SSI0Rx, L6 PA6/CCP1, L7 RXIN, L8 TXON, L9 MDIO, L10 GND, L11 OSC0, L12 VBAT, M1 PC5/C1+, M2 PC6/CCP3, M3 PA1/U0Tx, M4 PA2/SSI0Clk, M5 PA5/SSI0Tx, M6 NC, M7 RXIP, M8 TXOP, M9 PF0/PWM0, M10 WAKEn, M11 OSC1, M12 HIBn